# Altium integrated library Xilinx Spartan-3E.IntLib: 220 symbols (part 7 of 30)
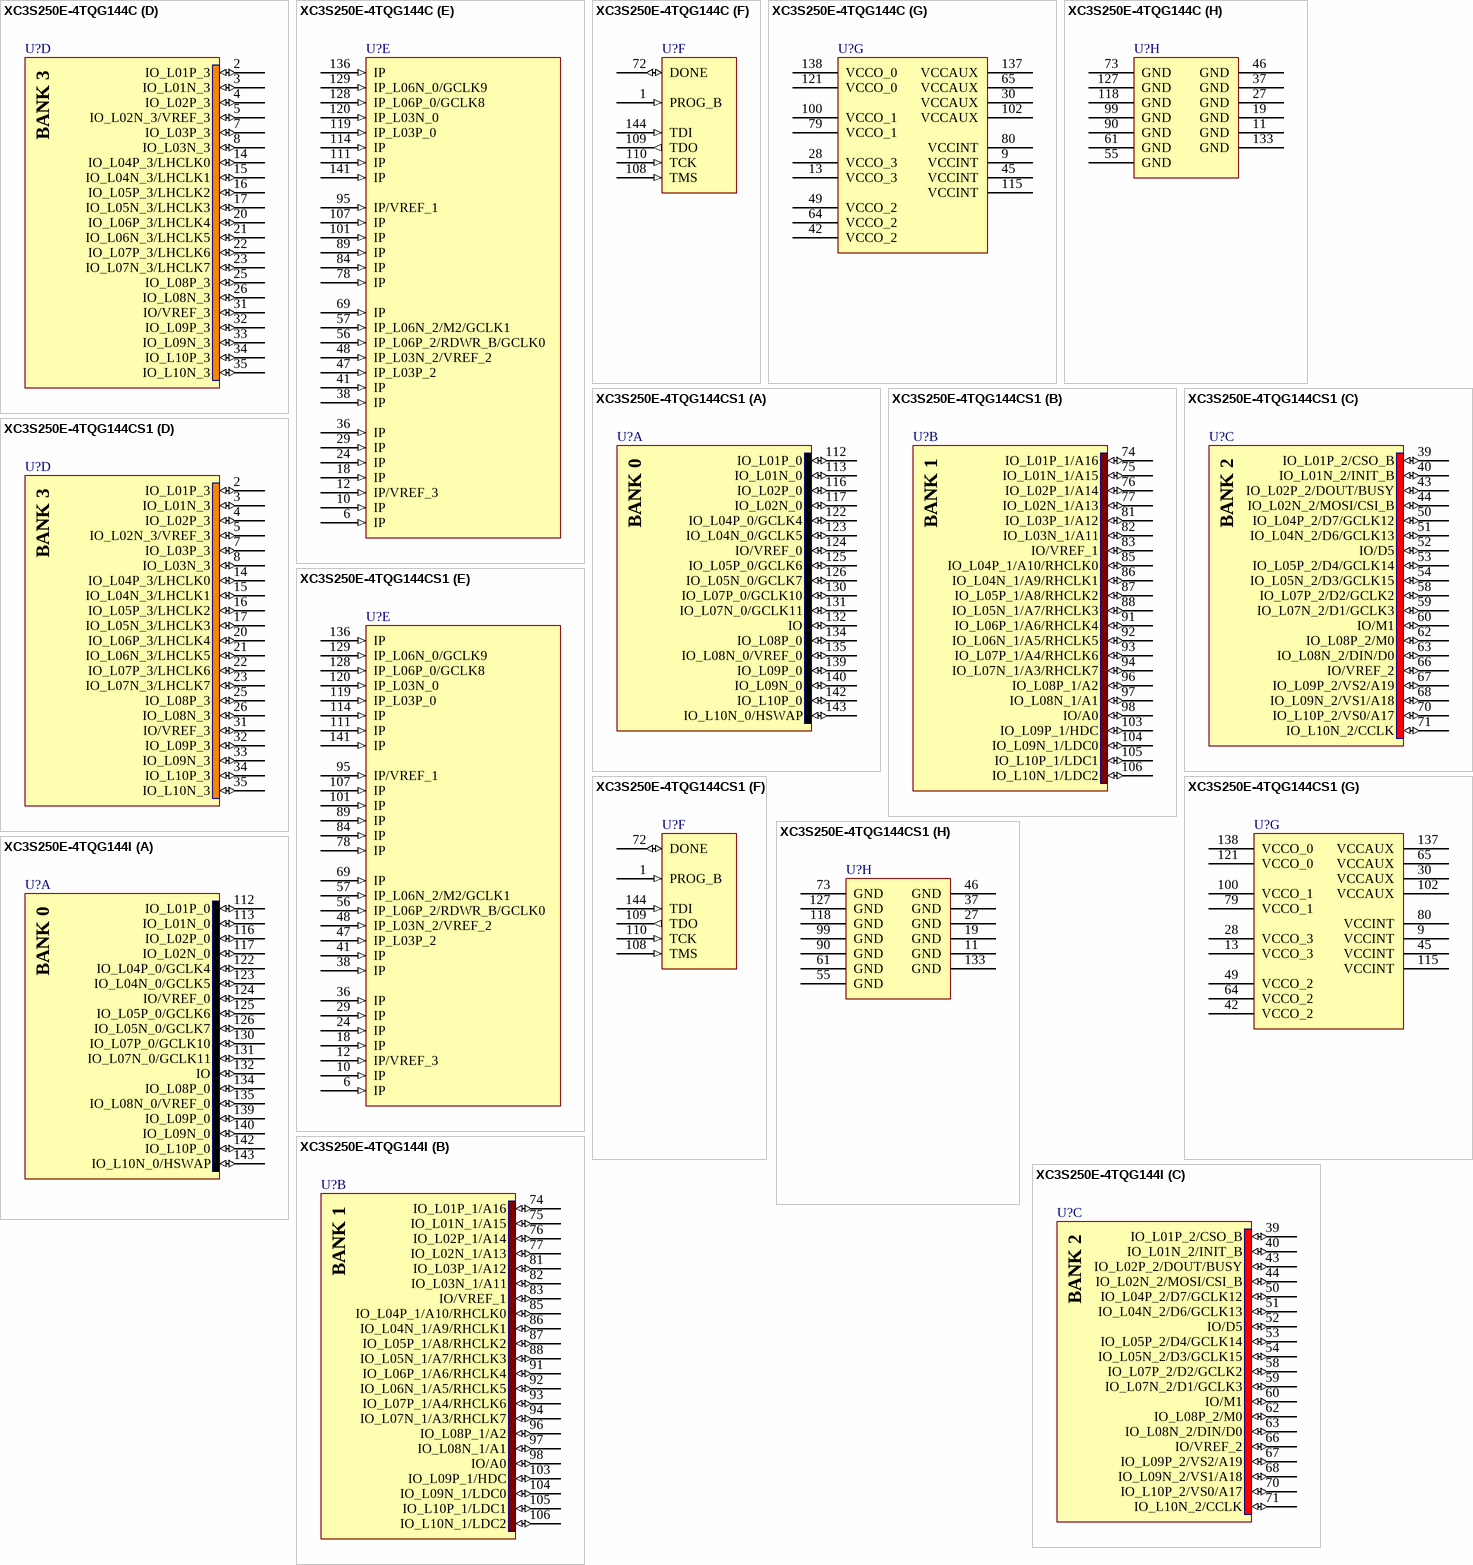
[diagram p200: symbols XC3S250E-4TQG144C to XC3S250E-4TQG144I]

## XC3S250E-4TQG144C
designator U?
Spartan-3E 1.2V FPGA, 108 User I/Os, 144-Pin TQFP, Standard Performance, Commercial Grade, Pb-Free; Published: 6-Jun-2005; LatestRevisionDate: 30-Oct-2009; LatestRevisionNote: Updated to datasheet version 3.8 Aug-2009.; DatasheetVersion: ver3.8, Aug-2009; PackageVersion: ver1.2, Jun-2004; PackageReference: TQG144; Publisher: Altium Limited; PackageDescription: 144-Pin Thin Quad Flat Pack (TQG144) - Pb-Free; Supplier 1: Digi-Key; Supplier Part Number 1: 122-1524-ND; Code_JEDEC: MS-026-BFB; ComponentLink1Description: Spartan-3E Datasheet; ComponentLink1URL: http://www.xilinx.com/support/documentation/data_sheets/ds312.pdf; ComponentLink2Description: TQG144 Package Drawing; ComponentLink2URL: http://www.xilinx.com/support/documentation/package_specs/tq144.pdf; ComponentLink3Description: Spartan-3E Documents; ComponentLink3URL: http://www.xilinx.com/support/documentation/spartan-3e.htm; ComponentLink4Description: Xilinx.com Home; ComponentLink4URL: http://www.xilinx.com
footprint TQG144_N (Thin QFP, 144-Leads, Body 20x20mm, Pitch 0.5mm, IPC Medium Density)
footprint TQG144_L (Thin QFP, 144-Leads, Body 20x20mm, Pitch 0.5mm, IPC High Density)
footprint TQG144_M (Thin QFP, 144-Leads, Body 20x20mm, Pitch 0.5mm, IPC Low Density)
signal-integrity model XC3S250E_TQG144 (Spartan-3E)
part A pins: 112 IO_L01P_0 (io), 113 IO_L01N_0 (io), 116 IO_L02P_0 (io), 117 IO_L02N_0 (io), 122 IO_L04P_0/GCLK4 (io), 123 IO_L04N_0/GCLK5 (io), 124 IO/VREF_0 (io), 125 IO_L05P_0/GCLK6 (io), 126 IO_L05N_0/GCLK7 (io), 130 IO_L07P_0/GCLK10 (io), 131 IO_L07N_0/GCLK11 (io), 132 IO (io), 134 IO_L08P_0 (io), 135 IO_L08N_0/VREF_0 (io), 139 IO_L09P_0 (io), 140 IO_L09N_0 (io), 142 IO_L10P_0 (io), 143 IO_L10N_0/HSWAP (io)
part B pins: 74 IO_L01P_1/A16 (io), 75 IO_L01N_1/A15 (io), 76 IO_L02P_1/A14 (io), 77 IO_L02N_1/A13 (io), 81 IO_L03P_1/A12 (io), 82 IO_L03N_1/A11 (io), 83 IO/VREF_1 (io), 85 IO_L04P_1/A10/RHCLK0 (io), 86 IO_L04N_1/A9/RHCLK1 (io), 87 IO_L05P_1/A8/RHCLK2 (io), 88 IO_L05N_1/A7/RHCLK3 (io), 91 IO_L06P_1/A6/RHCLK4 (io), 92 IO_L06N_1/A5/RHCLK5 (io), 93 IO_L07P_1/A4/RHCLK6 (io), 94 IO_L07N_1/A3/RHCLK7 (io), 96 IO_L08P_1/A2 (io), 97 IO_L08N_1/A1 (io), 98 IO/A0 (io), 103 IO_L09P_1/HDC (io), 104 IO_L09N_1/LDC0 (io), 105 IO_L10P_1/LDC1 (io), 106 IO_L10N_1/LDC2 (io)
part C pins: 39 IO_L01P_2/CSO_B (io), 40 IO_L01N_2/INIT_B (io), 43 IO_L02P_2/DOUT/BUSY (io), 44 IO_L02N_2/MOSI/CSI_B (io), 50 IO_L04P_2/D7/GCLK12 (io), 51 IO_L04N_2/D6/GCLK13 (io), 52 IO/D5 (io), 53 IO_L05P_2/D4/GCLK14 (io), 54 IO_L05N_2/D3/GCLK15 (io), 58 IO_L07P_2/D2/GCLK2 (io), 59 IO_L07N_2/D1/GCLK3 (io), 60 IO/M1 (io), 62 IO_L08P_2/M0 (io), 63 IO_L08N_2/DIN/D0 (io), 66 IO/VREF_2 (io), 67 IO_L09P_2/VS2/A19 (io), 68 IO_L09N_2/VS1/A18 (io), 70 IO_L10P_2/VS0/A17 (io), 71 IO_L10N_2/CCLK (io)
part D pins: 2 IO_L01P_3 (io), 3 IO_L01N_3 (io), 4 IO_L02P_3 (io), 5 IO_L02N_3/VREF_3 (io), 7 IO_L03P_3 (io), 8 IO_L03N_3 (io), 14 IO_L04P_3/LHCLK0 (io), 15 IO_L04N_3/LHCLK1 (io), 16 IO_L05P_3/LHCLK2 (io), 17 IO_L05N_3/LHCLK3 (io), 20 IO_L06P_3/LHCLK4 (io), 21 IO_L06N_3/LHCLK5 (io), 22 IO_L07P_3/LHCLK6 (io), 23 IO_L07N_3/LHCLK7 (io), 25 IO_L08P_3 (io), 26 IO_L08N_3 (io), 31 IO/VREF_3 (io), 32 IO_L09P_3 (io), 33 IO_L09N_3 (io), 34 IO_L10P_3 (io), 35 IO_L10N_3 (io)
part E pins: 6 IP (in), 10 IP (in), 12 IP/VREF_3 (in), 18 IP (in), 24 IP (in), 29 IP (in), 36 IP (in), 38 IP (in), 41 IP (in), 47 IP_L03P_2 (in), 48 IP_L03N_2/VREF_2 (in), 56 IP_L06P_2/RDWR_B/GCLK0 (in), 57 IP_L06N_2/M2/GCLK1 (in), 69 IP (in), 78 IP (in), 84 IP (in), 89 IP (in), 95 IP/VREF_1 (in), 101 IP (in), 107 IP (in), 111 IP (in), 114 IP (in), 119 IP_L03P_0 (in), 120 IP_L03N_0 (in), 128 IP_L06P_0/GCLK8 (in), 129 IP_L06N_0/GCLK9 (in), 136 IP (in), 141 IP (in)
part F pins: 1 PROG_B (in), 72 DONE (io), 108 TMS (in), 109 TDO (out), 110 TCK (in), 144 TDI (in)
part G pins: 9 VCCINT (power), 13 VCCO_3 (power), 28 VCCO_3 (power), 30 VCCAUX (power), 42 VCCO_2 (power), 45 VCCINT (power), 49 VCCO_2 (power), 64 VCCO_2 (power), 65 VCCAUX (power), 79 VCCO_1 (power), 80 VCCINT (power), 100 VCCO_1 (power), 102 VCCAUX (power), 115 VCCINT (power), 121 VCCO_0 (power), 137 VCCAUX (power), 138 VCCO_0 (power)
part H pins: 11 GND (power), 19 GND (power), 27 GND (power), 37 GND (power), 46 GND (power), 55 GND (power), 61 GND (power), 73 GND (power), 90 GND (power), 99 GND (power), 118 GND (power), 127 GND (power), 133 GND (power)
part A text: BANK 0
part B text: BANK 1
part C text: BANK 2
part D text: BANK 3

## XC3S250E-4TQG144CS1
designator U?
Spartan-3E 1.2V FPGA, 108 User I/Os, 144-Pin TQFP, Standard Performance, Commercial Grade, Stepping 1, Pb-Free; Published: 14-May-2007; LatestRevisionDate: 30-Oct-2009; LatestRevisionNote: Updated to datasheet version 3.8 Aug-2009.; DatasheetVersion: ver3.8, Aug-2009; PackageVersion: ver1.2, Jun-2004; PackageReference: TQG144; Publisher: Altium Limited; PackageDescription: 144-Pin Thin Quad Flat Pack (TQG144) - Pb-Free; Code_JEDEC: MS-026-BFB; ComponentLink1Description: Spartan-3E Datasheet; ComponentLink1URL: http://www.xilinx.com/support/documentation/data_sheets/ds312.pdf; ComponentLink2Description: TQG144 Package Drawing; ComponentLink2URL: http://www.xilinx.com/support/documentation/package_specs/tq144.pdf; ComponentLink3Description: Spartan-3E Documents; ComponentLink3URL: http://www.xilinx.com/support/documentation/spartan-3e.htm; ComponentLink4Description: Xilinx.com Home; ComponentLink4URL: http://www.xilinx.com
footprint TQG144_N (Thin QFP, 144-Leads, Body 20x20mm, Pitch 0.5mm, IPC Medium Density)
footprint TQG144_L (Thin QFP, 144-Leads, Body 20x20mm, Pitch 0.5mm, IPC High Density)
footprint TQG144_M (Thin QFP, 144-Leads, Body 20x20mm, Pitch 0.5mm, IPC Low Density)
signal-integrity model XC3S250E_TQG144 (Spartan-3E)
part A pins: 112 IO_L01P_0 (io), 113 IO_L01N_0 (io), 116 IO_L02P_0 (io), 117 IO_L02N_0 (io), 122 IO_L04P_0/GCLK4 (io), 123 IO_L04N_0/GCLK5 (io), 124 IO/VREF_0 (io), 125 IO_L05P_0/GCLK6 (io), 126 IO_L05N_0/GCLK7 (io), 130 IO_L07P_0/GCLK10 (io), 131 IO_L07N_0/GCLK11 (io), 132 IO (io), 134 IO_L08P_0 (io), 135 IO_L08N_0/VREF_0 (io), 139 IO_L09P_0 (io), 140 IO_L09N_0 (io), 142 IO_L10P_0 (io), 143 IO_L10N_0/HSWAP (io)
part B pins: 74 IO_L01P_1/A16 (io), 75 IO_L01N_1/A15 (io), 76 IO_L02P_1/A14 (io), 77 IO_L02N_1/A13 (io), 81 IO_L03P_1/A12 (io), 82 IO_L03N_1/A11 (io), 83 IO/VREF_1 (io), 85 IO_L04P_1/A10/RHCLK0 (io), 86 IO_L04N_1/A9/RHCLK1 (io), 87 IO_L05P_1/A8/RHCLK2 (io), 88 IO_L05N_1/A7/RHCLK3 (io), 91 IO_L06P_1/A6/RHCLK4 (io), 92 IO_L06N_1/A5/RHCLK5 (io), 93 IO_L07P_1/A4/RHCLK6 (io), 94 IO_L07N_1/A3/RHCLK7 (io), 96 IO_L08P_1/A2 (io), 97 IO_L08N_1/A1 (io), 98 IO/A0 (io), 103 IO_L09P_1/HDC (io), 104 IO_L09N_1/LDC0 (io), 105 IO_L10P_1/LDC1 (io), 106 IO_L10N_1/LDC2 (io)
part C pins: 39 IO_L01P_2/CSO_B (io), 40 IO_L01N_2/INIT_B (io), 43 IO_L02P_2/DOUT/BUSY (io), 44 IO_L02N_2/MOSI/CSI_B (io), 50 IO_L04P_2/D7/GCLK12 (io), 51 IO_L04N_2/D6/GCLK13 (io), 52 IO/D5 (io), 53 IO_L05P_2/D4/GCLK14 (io), 54 IO_L05N_2/D3/GCLK15 (io), 58 IO_L07P_2/D2/GCLK2 (io), 59 IO_L07N_2/D1/GCLK3 (io), 60 IO/M1 (io), 62 IO_L08P_2/M0 (io), 63 IO_L08N_2/DIN/D0 (io), 66 IO/VREF_2 (io), 67 IO_L09P_2/VS2/A19 (io), 68 IO_L09N_2/VS1/A18 (io), 70 IO_L10P_2/VS0/A17 (io), 71 IO_L10N_2/CCLK (io)
part D pins: 2 IO_L01P_3 (io), 3 IO_L01N_3 (io), 4 IO_L02P_3 (io), 5 IO_L02N_3/VREF_3 (io), 7 IO_L03P_3 (io), 8 IO_L03N_3 (io), 14 IO_L04P_3/LHCLK0 (io), 15 IO_L04N_3/LHCLK1 (io), 16 IO_L05P_3/LHCLK2 (io), 17 IO_L05N_3/LHCLK3 (io), 20 IO_L06P_3/LHCLK4 (io), 21 IO_L06N_3/LHCLK5 (io), 22 IO_L07P_3/LHCLK6 (io), 23 IO_L07N_3/LHCLK7 (io), 25 IO_L08P_3 (io), 26 IO_L08N_3 (io), 31 IO/VREF_3 (io), 32 IO_L09P_3 (io), 33 IO_L09N_3 (io), 34 IO_L10P_3 (io), 35 IO_L10N_3 (io)
part E pins: 6 IP (in), 10 IP (in), 12 IP/VREF_3 (in), 18 IP (in), 24 IP (in), 29 IP (in), 36 IP (in), 38 IP (in), 41 IP (in), 47 IP_L03P_2 (in), 48 IP_L03N_2/VREF_2 (in), 56 IP_L06P_2/RDWR_B/GCLK0 (in), 57 IP_L06N_2/M2/GCLK1 (in), 69 IP (in), 78 IP (in), 84 IP (in), 89 IP (in), 95 IP/VREF_1 (in), 101 IP (in), 107 IP (in), 111 IP (in), 114 IP (in), 119 IP_L03P_0 (in), 120 IP_L03N_0 (in), 128 IP_L06P_0/GCLK8 (in), 129 IP_L06N_0/GCLK9 (in), 136 IP (in), 141 IP (in)
part F pins: 1 PROG_B (in), 72 DONE (io), 108 TMS (in), 109 TDO (out), 110 TCK (in), 144 TDI (in)
part G pins: 9 VCCINT (power), 13 VCCO_3 (power), 28 VCCO_3 (power), 30 VCCAUX (power), 42 VCCO_2 (power), 45 VCCINT (power), 49 VCCO_2 (power), 64 VCCO_2 (power), 65 VCCAUX (power), 79 VCCO_1 (power), 80 VCCINT (power), 100 VCCO_1 (power), 102 VCCAUX (power), 115 VCCINT (power), 121 VCCO_0 (power), 137 VCCAUX (power), 138 VCCO_0 (power)
part H pins: 11 GND (power), 19 GND (power), 27 GND (power), 37 GND (power), 46 GND (power), 55 GND (power), 61 GND (power), 73 GND (power), 90 GND (power), 99 GND (power), 118 GND (power), 127 GND (power), 133 GND (power)
part A text: BANK 0
part B text: BANK 1
part C text: BANK 2
part D text: BANK 3

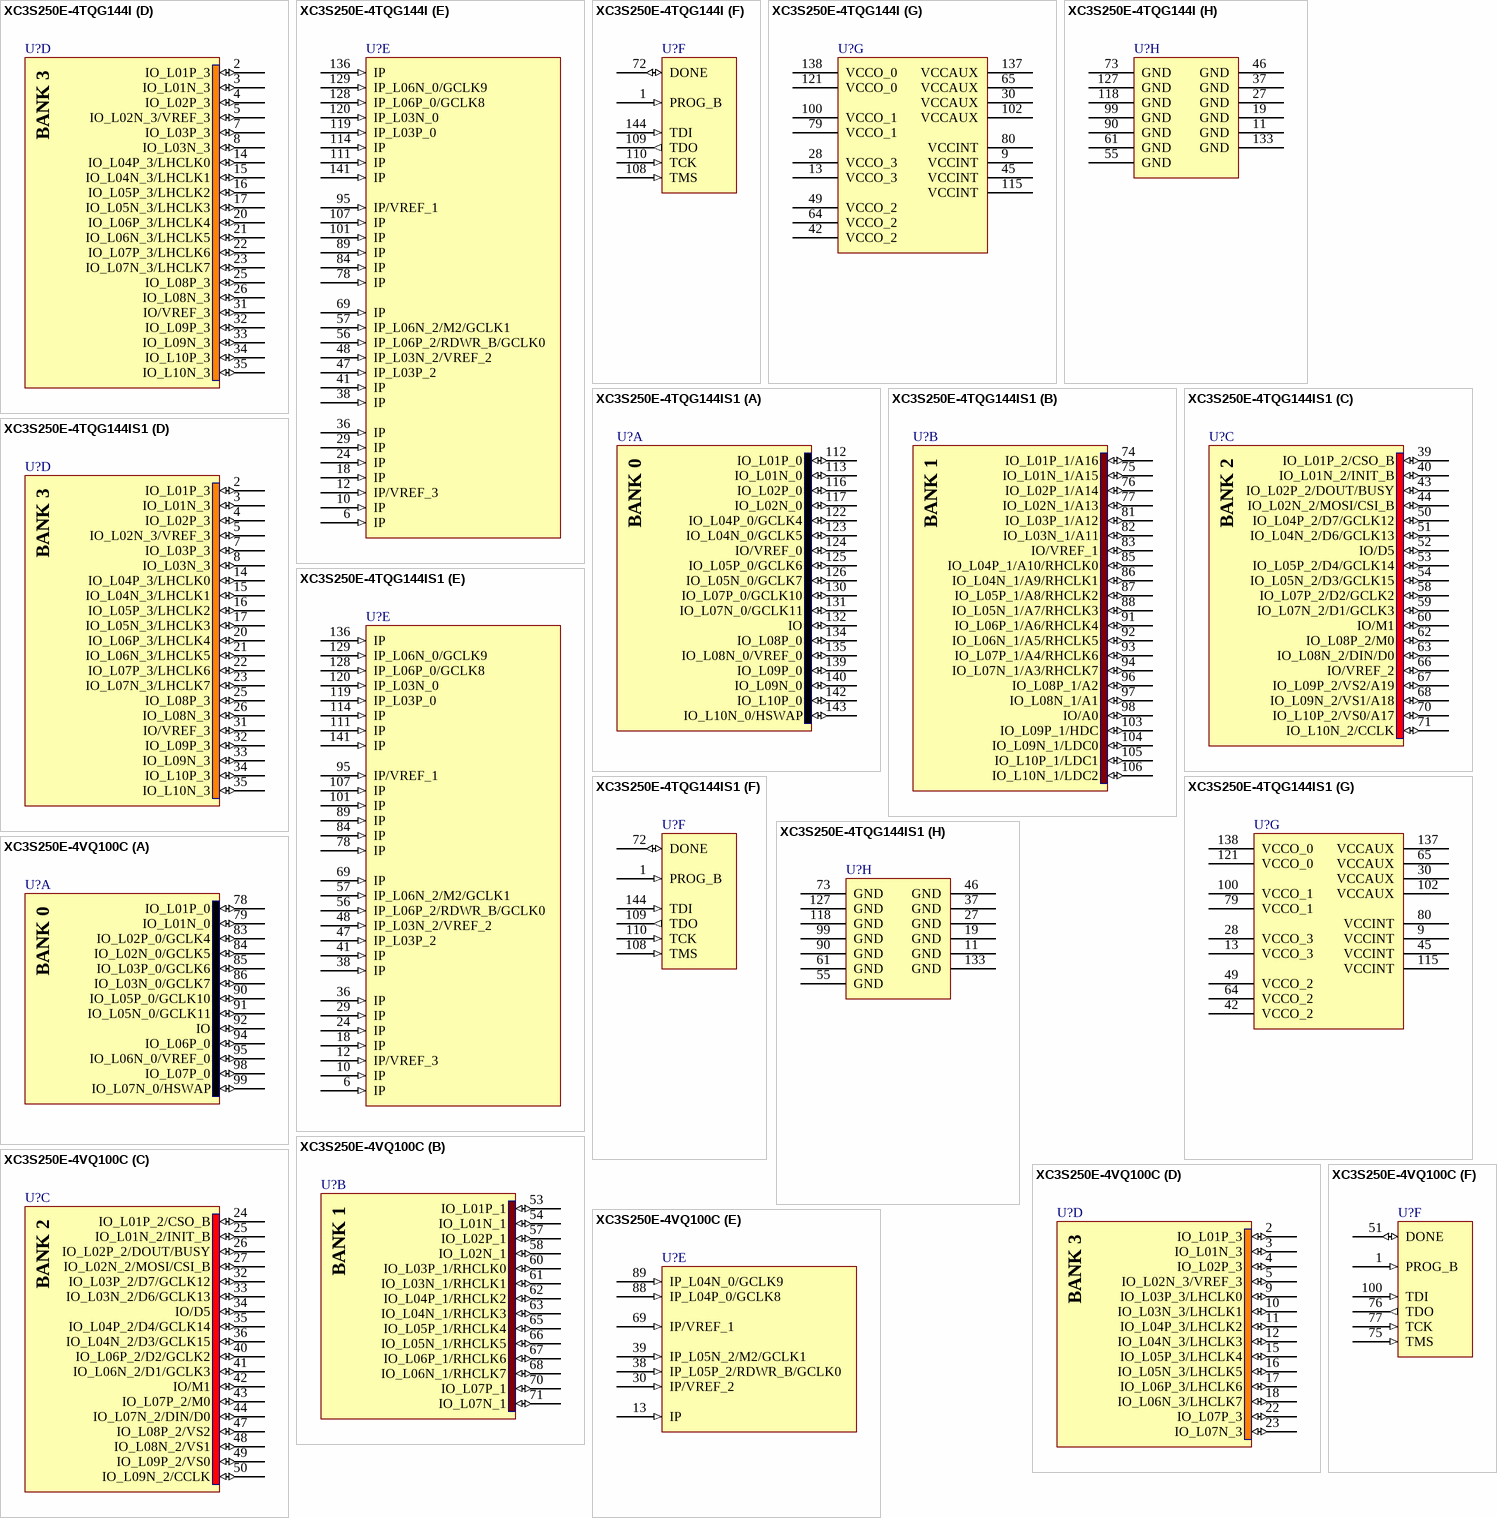
[diagram p37: symbols XC3S250E-4TQG144I to XC3S250E-4VQ100C]

## XC3S250E-4TQG144I
designator U?
Spartan-3E 1.2V FPGA, 108 User I/Os, 144-Pin TQFP, Standard Performance, Industrial Grade, Pb-Free; Published: 6-Jun-2005; LatestRevisionDate: 30-Oct-2009; LatestRevisionNote: Updated to datasheet version 3.8 Aug-2009.; DatasheetVersion: ver3.8, Aug-2009; PackageVersion: ver1.2, Jun-2004; PackageReference: TQG144; Publisher: Altium Limited; PackageDescription: 144-Pin Thin Quad Flat Pack (TQG144) - Pb-Free; Supplier 1: Digi-Key; Supplier Part Number 1: XC3S250E-4TQG144I-ND; Code_JEDEC: MS-026-BFB; ComponentLink1Description: Spartan-3E Datasheet; ComponentLink1URL: http://www.xilinx.com/support/documentation/data_sheets/ds312.pdf; ComponentLink2Description: TQG144 Package Drawing; ComponentLink2URL: http://www.xilinx.com/support/documentation/package_specs/tq144.pdf; ComponentLink3Description: Spartan-3E Documents; ComponentLink3URL: http://www.xilinx.com/support/documentation/spartan-3e.htm; ComponentLink4Description: Xilinx.com Home; ComponentLink4URL: http://www.xilinx.com
footprint TQG144_N (Thin QFP, 144-Leads, Body 20x20mm, Pitch 0.5mm, IPC Medium Density)
footprint TQG144_L (Thin QFP, 144-Leads, Body 20x20mm, Pitch 0.5mm, IPC High Density)
footprint TQG144_M (Thin QFP, 144-Leads, Body 20x20mm, Pitch 0.5mm, IPC Low Density)
signal-integrity model XC3S250E_TQG144 (Spartan-3E)
part A pins: 112 IO_L01P_0 (io), 113 IO_L01N_0 (io), 116 IO_L02P_0 (io), 117 IO_L02N_0 (io), 122 IO_L04P_0/GCLK4 (io), 123 IO_L04N_0/GCLK5 (io), 124 IO/VREF_0 (io), 125 IO_L05P_0/GCLK6 (io), 126 IO_L05N_0/GCLK7 (io), 130 IO_L07P_0/GCLK10 (io), 131 IO_L07N_0/GCLK11 (io), 132 IO (io), 134 IO_L08P_0 (io), 135 IO_L08N_0/VREF_0 (io), 139 IO_L09P_0 (io), 140 IO_L09N_0 (io), 142 IO_L10P_0 (io), 143 IO_L10N_0/HSWAP (io)
part B pins: 74 IO_L01P_1/A16 (io), 75 IO_L01N_1/A15 (io), 76 IO_L02P_1/A14 (io), 77 IO_L02N_1/A13 (io), 81 IO_L03P_1/A12 (io), 82 IO_L03N_1/A11 (io), 83 IO/VREF_1 (io), 85 IO_L04P_1/A10/RHCLK0 (io), 86 IO_L04N_1/A9/RHCLK1 (io), 87 IO_L05P_1/A8/RHCLK2 (io), 88 IO_L05N_1/A7/RHCLK3 (io), 91 IO_L06P_1/A6/RHCLK4 (io), 92 IO_L06N_1/A5/RHCLK5 (io), 93 IO_L07P_1/A4/RHCLK6 (io), 94 IO_L07N_1/A3/RHCLK7 (io), 96 IO_L08P_1/A2 (io), 97 IO_L08N_1/A1 (io), 98 IO/A0 (io), 103 IO_L09P_1/HDC (io), 104 IO_L09N_1/LDC0 (io), 105 IO_L10P_1/LDC1 (io), 106 IO_L10N_1/LDC2 (io)
part C pins: 39 IO_L01P_2/CSO_B (io), 40 IO_L01N_2/INIT_B (io), 43 IO_L02P_2/DOUT/BUSY (io), 44 IO_L02N_2/MOSI/CSI_B (io), 50 IO_L04P_2/D7/GCLK12 (io), 51 IO_L04N_2/D6/GCLK13 (io), 52 IO/D5 (io), 53 IO_L05P_2/D4/GCLK14 (io), 54 IO_L05N_2/D3/GCLK15 (io), 58 IO_L07P_2/D2/GCLK2 (io), 59 IO_L07N_2/D1/GCLK3 (io), 60 IO/M1 (io), 62 IO_L08P_2/M0 (io), 63 IO_L08N_2/DIN/D0 (io), 66 IO/VREF_2 (io), 67 IO_L09P_2/VS2/A19 (io), 68 IO_L09N_2/VS1/A18 (io), 70 IO_L10P_2/VS0/A17 (io), 71 IO_L10N_2/CCLK (io)
part D pins: 2 IO_L01P_3 (io), 3 IO_L01N_3 (io), 4 IO_L02P_3 (io), 5 IO_L02N_3/VREF_3 (io), 7 IO_L03P_3 (io), 8 IO_L03N_3 (io), 14 IO_L04P_3/LHCLK0 (io), 15 IO_L04N_3/LHCLK1 (io), 16 IO_L05P_3/LHCLK2 (io), 17 IO_L05N_3/LHCLK3 (io), 20 IO_L06P_3/LHCLK4 (io), 21 IO_L06N_3/LHCLK5 (io), 22 IO_L07P_3/LHCLK6 (io), 23 IO_L07N_3/LHCLK7 (io), 25 IO_L08P_3 (io), 26 IO_L08N_3 (io), 31 IO/VREF_3 (io), 32 IO_L09P_3 (io), 33 IO_L09N_3 (io), 34 IO_L10P_3 (io), 35 IO_L10N_3 (io)
part E pins: 6 IP (in), 10 IP (in), 12 IP/VREF_3 (in), 18 IP (in), 24 IP (in), 29 IP (in), 36 IP (in), 38 IP (in), 41 IP (in), 47 IP_L03P_2 (in), 48 IP_L03N_2/VREF_2 (in), 56 IP_L06P_2/RDWR_B/GCLK0 (in), 57 IP_L06N_2/M2/GCLK1 (in), 69 IP (in), 78 IP (in), 84 IP (in), 89 IP (in), 95 IP/VREF_1 (in), 101 IP (in), 107 IP (in), 111 IP (in), 114 IP (in), 119 IP_L03P_0 (in), 120 IP_L03N_0 (in), 128 IP_L06P_0/GCLK8 (in), 129 IP_L06N_0/GCLK9 (in), 136 IP (in), 141 IP (in)
part F pins: 1 PROG_B (in), 72 DONE (io), 108 TMS (in), 109 TDO (out), 110 TCK (in), 144 TDI (in)
part G pins: 9 VCCINT (power), 13 VCCO_3 (power), 28 VCCO_3 (power), 30 VCCAUX (power), 42 VCCO_2 (power), 45 VCCINT (power), 49 VCCO_2 (power), 64 VCCO_2 (power), 65 VCCAUX (power), 79 VCCO_1 (power), 80 VCCINT (power), 100 VCCO_1 (power), 102 VCCAUX (power), 115 VCCINT (power), 121 VCCO_0 (power), 137 VCCAUX (power), 138 VCCO_0 (power)
part H pins: 11 GND (power), 19 GND (power), 27 GND (power), 37 GND (power), 46 GND (power), 55 GND (power), 61 GND (power), 73 GND (power), 90 GND (power), 99 GND (power), 118 GND (power), 127 GND (power), 133 GND (power)
part A text: BANK 0
part B text: BANK 1
part C text: BANK 2
part D text: BANK 3

## XC3S250E-4TQG144IS1
designator U?
Spartan-3E 1.2V FPGA, 108 User I/Os, 144-Pin TQFP, Standard Performance, Industrial Grade, Stepping 1, Pb-Free; Published: 14-May-2007; LatestRevisionDate: 30-Oct-2009; LatestRevisionNote: Updated to datasheet version 3.8 Aug-2009.; DatasheetVersion: ver3.8, Aug-2009; PackageVersion: ver1.2, Jun-2004; PackageReference: TQG144; Publisher: Altium Limited; PackageDescription: 144-Pin Thin Quad Flat Pack (TQG144) - Pb-Free; Code_JEDEC: MS-026-BFB; ComponentLink1Description: Spartan-3E Datasheet; ComponentLink1URL: http://www.xilinx.com/support/documentation/data_sheets/ds312.pdf; ComponentLink2Description: TQG144 Package Drawing; ComponentLink2URL: http://www.xilinx.com/support/documentation/package_specs/tq144.pdf; ComponentLink3Description: Spartan-3E Documents; ComponentLink3URL: http://www.xilinx.com/support/documentation/spartan-3e.htm; ComponentLink4Description: Xilinx.com Home; ComponentLink4URL: http://www.xilinx.com
footprint TQG144_N (Thin QFP, 144-Leads, Body 20x20mm, Pitch 0.5mm, IPC Medium Density)
footprint TQG144_L (Thin QFP, 144-Leads, Body 20x20mm, Pitch 0.5mm, IPC High Density)
footprint TQG144_M (Thin QFP, 144-Leads, Body 20x20mm, Pitch 0.5mm, IPC Low Density)
signal-integrity model XC3S250E_TQG144 (Spartan-3E)
part A pins: 112 IO_L01P_0 (io), 113 IO_L01N_0 (io), 116 IO_L02P_0 (io), 117 IO_L02N_0 (io), 122 IO_L04P_0/GCLK4 (io), 123 IO_L04N_0/GCLK5 (io), 124 IO/VREF_0 (io), 125 IO_L05P_0/GCLK6 (io), 126 IO_L05N_0/GCLK7 (io), 130 IO_L07P_0/GCLK10 (io), 131 IO_L07N_0/GCLK11 (io), 132 IO (io), 134 IO_L08P_0 (io), 135 IO_L08N_0/VREF_0 (io), 139 IO_L09P_0 (io), 140 IO_L09N_0 (io), 142 IO_L10P_0 (io), 143 IO_L10N_0/HSWAP (io)
part B pins: 74 IO_L01P_1/A16 (io), 75 IO_L01N_1/A15 (io), 76 IO_L02P_1/A14 (io), 77 IO_L02N_1/A13 (io), 81 IO_L03P_1/A12 (io), 82 IO_L03N_1/A11 (io), 83 IO/VREF_1 (io), 85 IO_L04P_1/A10/RHCLK0 (io), 86 IO_L04N_1/A9/RHCLK1 (io), 87 IO_L05P_1/A8/RHCLK2 (io), 88 IO_L05N_1/A7/RHCLK3 (io), 91 IO_L06P_1/A6/RHCLK4 (io), 92 IO_L06N_1/A5/RHCLK5 (io), 93 IO_L07P_1/A4/RHCLK6 (io), 94 IO_L07N_1/A3/RHCLK7 (io), 96 IO_L08P_1/A2 (io), 97 IO_L08N_1/A1 (io), 98 IO/A0 (io), 103 IO_L09P_1/HDC (io), 104 IO_L09N_1/LDC0 (io), 105 IO_L10P_1/LDC1 (io), 106 IO_L10N_1/LDC2 (io)
part C pins: 39 IO_L01P_2/CSO_B (io), 40 IO_L01N_2/INIT_B (io), 43 IO_L02P_2/DOUT/BUSY (io), 44 IO_L02N_2/MOSI/CSI_B (io), 50 IO_L04P_2/D7/GCLK12 (io), 51 IO_L04N_2/D6/GCLK13 (io), 52 IO/D5 (io), 53 IO_L05P_2/D4/GCLK14 (io), 54 IO_L05N_2/D3/GCLK15 (io), 58 IO_L07P_2/D2/GCLK2 (io), 59 IO_L07N_2/D1/GCLK3 (io), 60 IO/M1 (io), 62 IO_L08P_2/M0 (io), 63 IO_L08N_2/DIN/D0 (io), 66 IO/VREF_2 (io), 67 IO_L09P_2/VS2/A19 (io), 68 IO_L09N_2/VS1/A18 (io), 70 IO_L10P_2/VS0/A17 (io), 71 IO_L10N_2/CCLK (io)
part D pins: 2 IO_L01P_3 (io), 3 IO_L01N_3 (io), 4 IO_L02P_3 (io), 5 IO_L02N_3/VREF_3 (io), 7 IO_L03P_3 (io), 8 IO_L03N_3 (io), 14 IO_L04P_3/LHCLK0 (io), 15 IO_L04N_3/LHCLK1 (io), 16 IO_L05P_3/LHCLK2 (io), 17 IO_L05N_3/LHCLK3 (io), 20 IO_L06P_3/LHCLK4 (io), 21 IO_L06N_3/LHCLK5 (io), 22 IO_L07P_3/LHCLK6 (io), 23 IO_L07N_3/LHCLK7 (io), 25 IO_L08P_3 (io), 26 IO_L08N_3 (io), 31 IO/VREF_3 (io), 32 IO_L09P_3 (io), 33 IO_L09N_3 (io), 34 IO_L10P_3 (io), 35 IO_L10N_3 (io)
part E pins: 6 IP (in), 10 IP (in), 12 IP/VREF_3 (in), 18 IP (in), 24 IP (in), 29 IP (in), 36 IP (in), 38 IP (in), 41 IP (in), 47 IP_L03P_2 (in), 48 IP_L03N_2/VREF_2 (in), 56 IP_L06P_2/RDWR_B/GCLK0 (in), 57 IP_L06N_2/M2/GCLK1 (in), 69 IP (in), 78 IP (in), 84 IP (in), 89 IP (in), 95 IP/VREF_1 (in), 101 IP (in), 107 IP (in), 111 IP (in), 114 IP (in), 119 IP_L03P_0 (in), 120 IP_L03N_0 (in), 128 IP_L06P_0/GCLK8 (in), 129 IP_L06N_0/GCLK9 (in), 136 IP (in), 141 IP (in)
part F pins: 1 PROG_B (in), 72 DONE (io), 108 TMS (in), 109 TDO (out), 110 TCK (in), 144 TDI (in)
part G pins: 9 VCCINT (power), 13 VCCO_3 (power), 28 VCCO_3 (power), 30 VCCAUX (power), 42 VCCO_2 (power), 45 VCCINT (power), 49 VCCO_2 (power), 64 VCCO_2 (power), 65 VCCAUX (power), 79 VCCO_1 (power), 80 VCCINT (power), 100 VCCO_1 (power), 102 VCCAUX (power), 115 VCCINT (power), 121 VCCO_0 (power), 137 VCCAUX (power), 138 VCCO_0 (power)
part H pins: 11 GND (power), 19 GND (power), 27 GND (power), 37 GND (power), 46 GND (power), 55 GND (power), 61 GND (power), 73 GND (power), 90 GND (power), 99 GND (power), 118 GND (power), 127 GND (power), 133 GND (power)
part A text: BANK 0
part B text: BANK 1
part C text: BANK 2
part D text: BANK 3

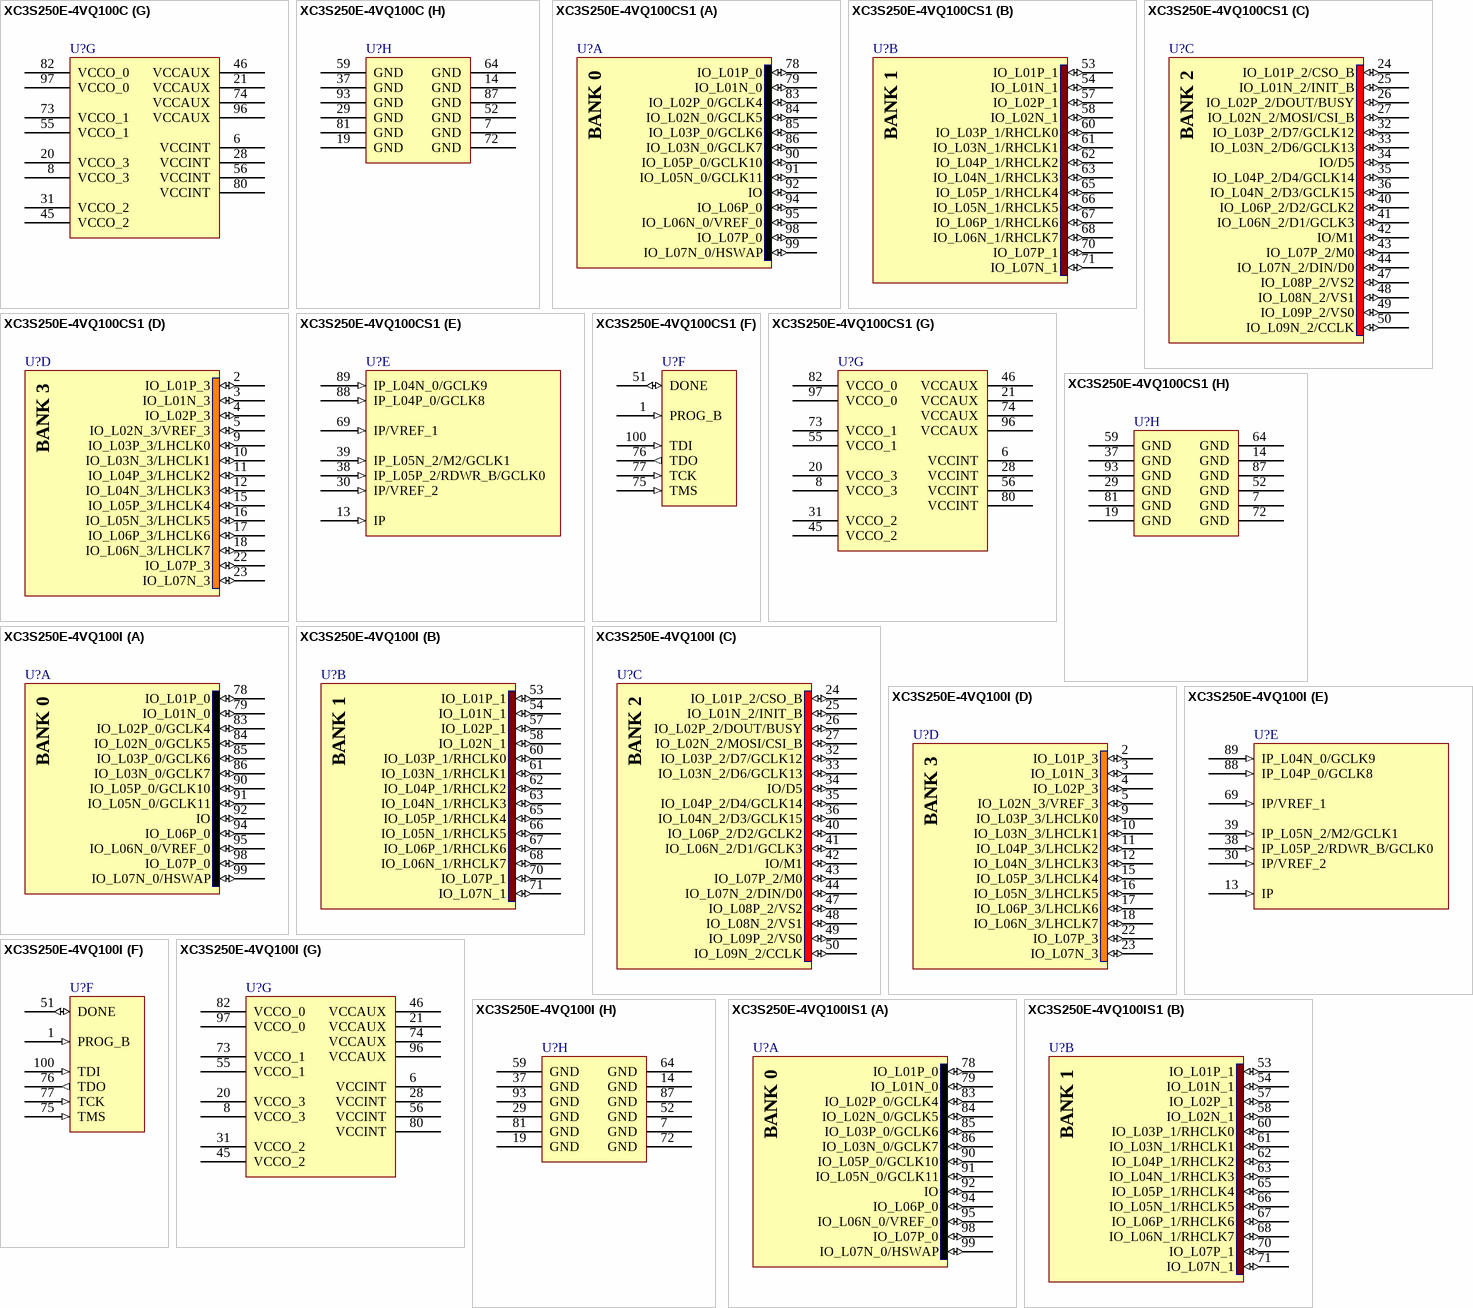
[diagram p38: symbols XC3S250E-4VQ100C to XC3S250E-4VQ100IS1]

## XC3S250E-4VQ100C
designator U?
Spartan-3E 1.2V FPGA, 66 User I/Os, 100-Pin VQFP, Standard Performance, Commercial Grade; Published: 6-Jun-2005; LatestRevisionDate: 30-Oct-2009; LatestRevisionNote: Updated to datasheet version 3.8 Aug-2009.; DatasheetVersion: ver3.8, Aug-2009; PackageVersion: ver1.2.1, Feb-2007; PackageReference: VQ100; Publisher: Altium Limited; PackageDescription: 100-Pin Very Thin Quad Flat Pack (VQ100); Code_JEDEC: MS-026-AED; ComponentLink1Description: Spartan-3E Datasheet; ComponentLink1URL: http://www.xilinx.com/support/documentation/data_sheets/ds312.pdf; ComponentLink2Description: VQ100 Package Drawing; ComponentLink2URL: http://www.xilinx.com/support/documentation/package_specs/vq100.pdf; ComponentLink3Description: Spartan-3E Documents; ComponentLink3URL: http://www.xilinx.com/support/documentation/spartan-3e.htm; ComponentLink4Description: Xilinx.com Home; ComponentLink4URL: http://www.xilinx.com
footprint VQ100_N (Thin QFP, 100-Leads, Body 14x14mm, Pitch 0.5mm, IPC Medium Density)
footprint VQ100_L (Thin QFP, 100-Leads, Body 14x14mm, Pitch 0.5mm, IPC High Density)
footprint VQ100_M (Thin QFP, 100-Leads, Body 14x14mm, Pitch 0.5mm, IPC Low Density)
signal-integrity model XC3S250E_VQ100 (Spartan-3E)
part A pins: 78 IO_L01P_0 (io), 79 IO_L01N_0 (io), 83 IO_L02P_0/GCLK4 (io), 84 IO_L02N_0/GCLK5 (io), 85 IO_L03P_0/GCLK6 (io), 86 IO_L03N_0/GCLK7 (io), 90 IO_L05P_0/GCLK10 (io), 91 IO_L05N_0/GCLK11 (io), 92 IO (io), 94 IO_L06P_0 (io), 95 IO_L06N_0/VREF_0 (io), 98 IO_L07P_0 (io), 99 IO_L07N_0/HSWAP (io)
part B pins: 53 IO_L01P_1 (io), 54 IO_L01N_1 (io), 57 IO_L02P_1 (io), 58 IO_L02N_1 (io), 60 IO_L03P_1/RHCLK0 (io), 61 IO_L03N_1/RHCLK1 (io), 62 IO_L04P_1/RHCLK2 (io), 63 IO_L04N_1/RHCLK3 (io), 65 IO_L05P_1/RHCLK4 (io), 66 IO_L05N_1/RHCLK5 (io), 67 IO_L06P_1/RHCLK6 (io), 68 IO_L06N_1/RHCLK7 (io), 70 IO_L07P_1 (io), 71 IO_L07N_1 (io)
part C pins: 24 IO_L01P_2/CSO_B (io), 25 IO_L01N_2/INIT_B (io), 26 IO_L02P_2/DOUT/BUSY (io), 27 IO_L02N_2/MOSI/CSI_B (io), 32 IO_L03P_2/D7/GCLK12 (io), 33 IO_L03N_2/D6/GCLK13 (io), 34 IO/D5 (io), 35 IO_L04P_2/D4/GCLK14 (io), 36 IO_L04N_2/D3/GCLK15 (io), 40 IO_L06P_2/D2/GCLK2 (io), 41 IO_L06N_2/D1/GCLK3 (io), 42 IO/M1 (io), 43 IO_L07P_2/M0 (io), 44 IO_L07N_2/DIN/D0 (io), 47 IO_L08P_2/VS2 (io), 48 IO_L08N_2/VS1 (io), 49 IO_L09P_2/VS0 (io), 50 IO_L09N_2/CCLK (io)
part D pins: 2 IO_L01P_3 (io), 3 IO_L01N_3 (io), 4 IO_L02P_3 (io), 5 IO_L02N_3/VREF_3 (io), 9 IO_L03P_3/LHCLK0 (io), 10 IO_L03N_3/LHCLK1 (io), 11 IO_L04P_3/LHCLK2 (io), 12 IO_L04N_3/LHCLK3 (io), 15 IO_L05P_3/LHCLK4 (io), 16 IO_L05N_3/LHCLK5 (io), 17 IO_L06P_3/LHCLK6 (io), 18 IO_L06N_3/LHCLK7 (io), 22 IO_L07P_3 (io), 23 IO_L07N_3 (io)
part E pins: 13 IP (in), 30 IP/VREF_2 (in), 38 IP_L05P_2/RDWR_B/GCLK0 (in), 39 IP_L05N_2/M2/GCLK1 (in), 69 IP/VREF_1 (in), 88 IP_L04P_0/GCLK8 (in), 89 IP_L04N_0/GCLK9 (in)
part F pins: 1 PROG_B (in), 51 DONE (io), 75 TMS (in), 76 TDO (out), 77 TCK (in), 100 TDI (in)
part G pins: 6 VCCINT (power), 8 VCCO_3 (power), 20 VCCO_3 (power), 21 VCCAUX (power), 28 VCCINT (power), 31 VCCO_2 (power), 45 VCCO_2 (power), 46 VCCAUX (power), 55 VCCO_1 (power), 56 VCCINT (power), 73 VCCO_1 (power), 74 VCCAUX (power), 80 VCCINT (power), 82 VCCO_0 (power), 96 VCCAUX (power), 97 VCCO_0 (power)
part H pins: 7 GND (power), 14 GND (power), 19 GND (power), 29 GND (power), 37 GND (power), 52 GND (power), 59 GND (power), 64 GND (power), 72 GND (power), 81 GND (power), 87 GND (power), 93 GND (power)
part A text: BANK 0
part B text: BANK 1
part C text: BANK 2
part D text: BANK 3

## XC3S250E-4VQ100CS1
designator U?
Spartan-3E 1.2V FPGA, 66 User I/Os, 100-Pin VQFP, Standard Performance, Commercial Grade, Stepping 1; Published: 14-May-2007; LatestRevisionDate: 30-Oct-2009; LatestRevisionNote: Updated to datasheet version 3.8 Aug-2009.; DatasheetVersion: ver3.8, Aug-2009; PackageVersion: ver1.2.1, Feb-2007; PackageReference: VQ100; Publisher: Altium Limited; PackageDescription: 100-Pin Very Thin Quad Flat Pack (VQ100); Code_JEDEC: MS-026-AED; ComponentLink1Description: Spartan-3E Datasheet; ComponentLink1URL: http://www.xilinx.com/support/documentation/data_sheets/ds312.pdf; ComponentLink2Description: VQ100 Package Drawing; ComponentLink2URL: http://www.xilinx.com/support/documentation/package_specs/vq100.pdf; ComponentLink3Description: Spartan-3E Documents; ComponentLink3URL: http://www.xilinx.com/support/documentation/spartan-3e.htm; ComponentLink4Description: Xilinx.com Home; ComponentLink4URL: http://www.xilinx.com
footprint VQ100_N (Thin QFP, 100-Leads, Body 14x14mm, Pitch 0.5mm, IPC Medium Density)
footprint VQ100_L (Thin QFP, 100-Leads, Body 14x14mm, Pitch 0.5mm, IPC High Density)
footprint VQ100_M (Thin QFP, 100-Leads, Body 14x14mm, Pitch 0.5mm, IPC Low Density)
signal-integrity model XC3S250E_VQ100 (Spartan-3E)
part A pins: 78 IO_L01P_0 (io), 79 IO_L01N_0 (io), 83 IO_L02P_0/GCLK4 (io), 84 IO_L02N_0/GCLK5 (io), 85 IO_L03P_0/GCLK6 (io), 86 IO_L03N_0/GCLK7 (io), 90 IO_L05P_0/GCLK10 (io), 91 IO_L05N_0/GCLK11 (io), 92 IO (io), 94 IO_L06P_0 (io), 95 IO_L06N_0/VREF_0 (io), 98 IO_L07P_0 (io), 99 IO_L07N_0/HSWAP (io)
part B pins: 53 IO_L01P_1 (io), 54 IO_L01N_1 (io), 57 IO_L02P_1 (io), 58 IO_L02N_1 (io), 60 IO_L03P_1/RHCLK0 (io), 61 IO_L03N_1/RHCLK1 (io), 62 IO_L04P_1/RHCLK2 (io), 63 IO_L04N_1/RHCLK3 (io), 65 IO_L05P_1/RHCLK4 (io), 66 IO_L05N_1/RHCLK5 (io), 67 IO_L06P_1/RHCLK6 (io), 68 IO_L06N_1/RHCLK7 (io), 70 IO_L07P_1 (io), 71 IO_L07N_1 (io)
part C pins: 24 IO_L01P_2/CSO_B (io), 25 IO_L01N_2/INIT_B (io), 26 IO_L02P_2/DOUT/BUSY (io), 27 IO_L02N_2/MOSI/CSI_B (io), 32 IO_L03P_2/D7/GCLK12 (io), 33 IO_L03N_2/D6/GCLK13 (io), 34 IO/D5 (io), 35 IO_L04P_2/D4/GCLK14 (io), 36 IO_L04N_2/D3/GCLK15 (io), 40 IO_L06P_2/D2/GCLK2 (io), 41 IO_L06N_2/D1/GCLK3 (io), 42 IO/M1 (io), 43 IO_L07P_2/M0 (io), 44 IO_L07N_2/DIN/D0 (io), 47 IO_L08P_2/VS2 (io), 48 IO_L08N_2/VS1 (io), 49 IO_L09P_2/VS0 (io), 50 IO_L09N_2/CCLK (io)
part D pins: 2 IO_L01P_3 (io), 3 IO_L01N_3 (io), 4 IO_L02P_3 (io), 5 IO_L02N_3/VREF_3 (io), 9 IO_L03P_3/LHCLK0 (io), 10 IO_L03N_3/LHCLK1 (io), 11 IO_L04P_3/LHCLK2 (io), 12 IO_L04N_3/LHCLK3 (io), 15 IO_L05P_3/LHCLK4 (io), 16 IO_L05N_3/LHCLK5 (io), 17 IO_L06P_3/LHCLK6 (io), 18 IO_L06N_3/LHCLK7 (io), 22 IO_L07P_3 (io), 23 IO_L07N_3 (io)
part E pins: 13 IP (in), 30 IP/VREF_2 (in), 38 IP_L05P_2/RDWR_B/GCLK0 (in), 39 IP_L05N_2/M2/GCLK1 (in), 69 IP/VREF_1 (in), 88 IP_L04P_0/GCLK8 (in), 89 IP_L04N_0/GCLK9 (in)
part F pins: 1 PROG_B (in), 51 DONE (io), 75 TMS (in), 76 TDO (out), 77 TCK (in), 100 TDI (in)
part G pins: 6 VCCINT (power), 8 VCCO_3 (power), 20 VCCO_3 (power), 21 VCCAUX (power), 28 VCCINT (power), 31 VCCO_2 (power), 45 VCCO_2 (power), 46 VCCAUX (power), 55 VCCO_1 (power), 56 VCCINT (power), 73 VCCO_1 (power), 74 VCCAUX (power), 80 VCCINT (power), 82 VCCO_0 (power), 96 VCCAUX (power), 97 VCCO_0 (power)
part H pins: 7 GND (power), 14 GND (power), 19 GND (power), 29 GND (power), 37 GND (power), 52 GND (power), 59 GND (power), 64 GND (power), 72 GND (power), 81 GND (power), 87 GND (power), 93 GND (power)
part A text: BANK 0
part B text: BANK 1
part C text: BANK 2
part D text: BANK 3

## XC3S250E-4VQ100I
designator U?
Spartan-3E 1.2V FPGA, 66 User I/Os, 100-Pin VQFP, Standard Performance, Industrial Grade; Published: 6-Jun-2005; LatestRevisionDate: 30-Oct-2009; LatestRevisionNote: Updated to datasheet version 3.8 Aug-2009.; DatasheetVersion: ver3.8, Aug-2009; PackageVersion: ver1.2.1, Feb-2007; PackageReference: VQ100; Publisher: Altium Limited; PackageDescription: 100-Pin Very Thin Quad Flat Pack (VQ100); Code_JEDEC: MS-026-AED; ComponentLink1Description: Spartan-3E Datasheet; ComponentLink1URL: http://www.xilinx.com/support/documentation/data_sheets/ds312.pdf; ComponentLink2Description: VQ100 Package Drawing; ComponentLink2URL: http://www.xilinx.com/support/documentation/package_specs/vq100.pdf; ComponentLink3Description: Spartan-3E Documents; ComponentLink3URL: http://www.xilinx.com/support/documentation/spartan-3e.htm; ComponentLink4Description: Xilinx.com Home; ComponentLink4URL: http://www.xilinx.com
footprint VQ100_N (Thin QFP, 100-Leads, Body 14x14mm, Pitch 0.5mm, IPC Medium Density)
footprint VQ100_L (Thin QFP, 100-Leads, Body 14x14mm, Pitch 0.5mm, IPC High Density)
footprint VQ100_M (Thin QFP, 100-Leads, Body 14x14mm, Pitch 0.5mm, IPC Low Density)
signal-integrity model XC3S250E_VQ100 (Spartan-3E)
part A pins: 78 IO_L01P_0 (io), 79 IO_L01N_0 (io), 83 IO_L02P_0/GCLK4 (io), 84 IO_L02N_0/GCLK5 (io), 85 IO_L03P_0/GCLK6 (io), 86 IO_L03N_0/GCLK7 (io), 90 IO_L05P_0/GCLK10 (io), 91 IO_L05N_0/GCLK11 (io), 92 IO (io), 94 IO_L06P_0 (io), 95 IO_L06N_0/VREF_0 (io), 98 IO_L07P_0 (io), 99 IO_L07N_0/HSWAP (io)
part B pins: 53 IO_L01P_1 (io), 54 IO_L01N_1 (io), 57 IO_L02P_1 (io), 58 IO_L02N_1 (io), 60 IO_L03P_1/RHCLK0 (io), 61 IO_L03N_1/RHCLK1 (io), 62 IO_L04P_1/RHCLK2 (io), 63 IO_L04N_1/RHCLK3 (io), 65 IO_L05P_1/RHCLK4 (io), 66 IO_L05N_1/RHCLK5 (io), 67 IO_L06P_1/RHCLK6 (io), 68 IO_L06N_1/RHCLK7 (io), 70 IO_L07P_1 (io), 71 IO_L07N_1 (io)
part C pins: 24 IO_L01P_2/CSO_B (io), 25 IO_L01N_2/INIT_B (io), 26 IO_L02P_2/DOUT/BUSY (io), 27 IO_L02N_2/MOSI/CSI_B (io), 32 IO_L03P_2/D7/GCLK12 (io), 33 IO_L03N_2/D6/GCLK13 (io), 34 IO/D5 (io), 35 IO_L04P_2/D4/GCLK14 (io), 36 IO_L04N_2/D3/GCLK15 (io), 40 IO_L06P_2/D2/GCLK2 (io), 41 IO_L06N_2/D1/GCLK3 (io), 42 IO/M1 (io), 43 IO_L07P_2/M0 (io), 44 IO_L07N_2/DIN/D0 (io), 47 IO_L08P_2/VS2 (io), 48 IO_L08N_2/VS1 (io), 49 IO_L09P_2/VS0 (io), 50 IO_L09N_2/CCLK (io)
part D pins: 2 IO_L01P_3 (io), 3 IO_L01N_3 (io), 4 IO_L02P_3 (io), 5 IO_L02N_3/VREF_3 (io), 9 IO_L03P_3/LHCLK0 (io), 10 IO_L03N_3/LHCLK1 (io), 11 IO_L04P_3/LHCLK2 (io), 12 IO_L04N_3/LHCLK3 (io), 15 IO_L05P_3/LHCLK4 (io), 16 IO_L05N_3/LHCLK5 (io), 17 IO_L06P_3/LHCLK6 (io), 18 IO_L06N_3/LHCLK7 (io), 22 IO_L07P_3 (io), 23 IO_L07N_3 (io)
part E pins: 13 IP (in), 30 IP/VREF_2 (in), 38 IP_L05P_2/RDWR_B/GCLK0 (in), 39 IP_L05N_2/M2/GCLK1 (in), 69 IP/VREF_1 (in), 88 IP_L04P_0/GCLK8 (in), 89 IP_L04N_0/GCLK9 (in)
part F pins: 1 PROG_B (in), 51 DONE (io), 75 TMS (in), 76 TDO (out), 77 TCK (in), 100 TDI (in)
part G pins: 6 VCCINT (power), 8 VCCO_3 (power), 20 VCCO_3 (power), 21 VCCAUX (power), 28 VCCINT (power), 31 VCCO_2 (power), 45 VCCO_2 (power), 46 VCCAUX (power), 55 VCCO_1 (power), 56 VCCINT (power), 73 VCCO_1 (power), 74 VCCAUX (power), 80 VCCINT (power), 82 VCCO_0 (power), 96 VCCAUX (power), 97 VCCO_0 (power)
part H pins: 7 GND (power), 14 GND (power), 19 GND (power), 29 GND (power), 37 GND (power), 52 GND (power), 59 GND (power), 64 GND (power), 72 GND (power), 81 GND (power), 87 GND (power), 93 GND (power)
part A text: BANK 0
part B text: BANK 1
part C text: BANK 2
part D text: BANK 3

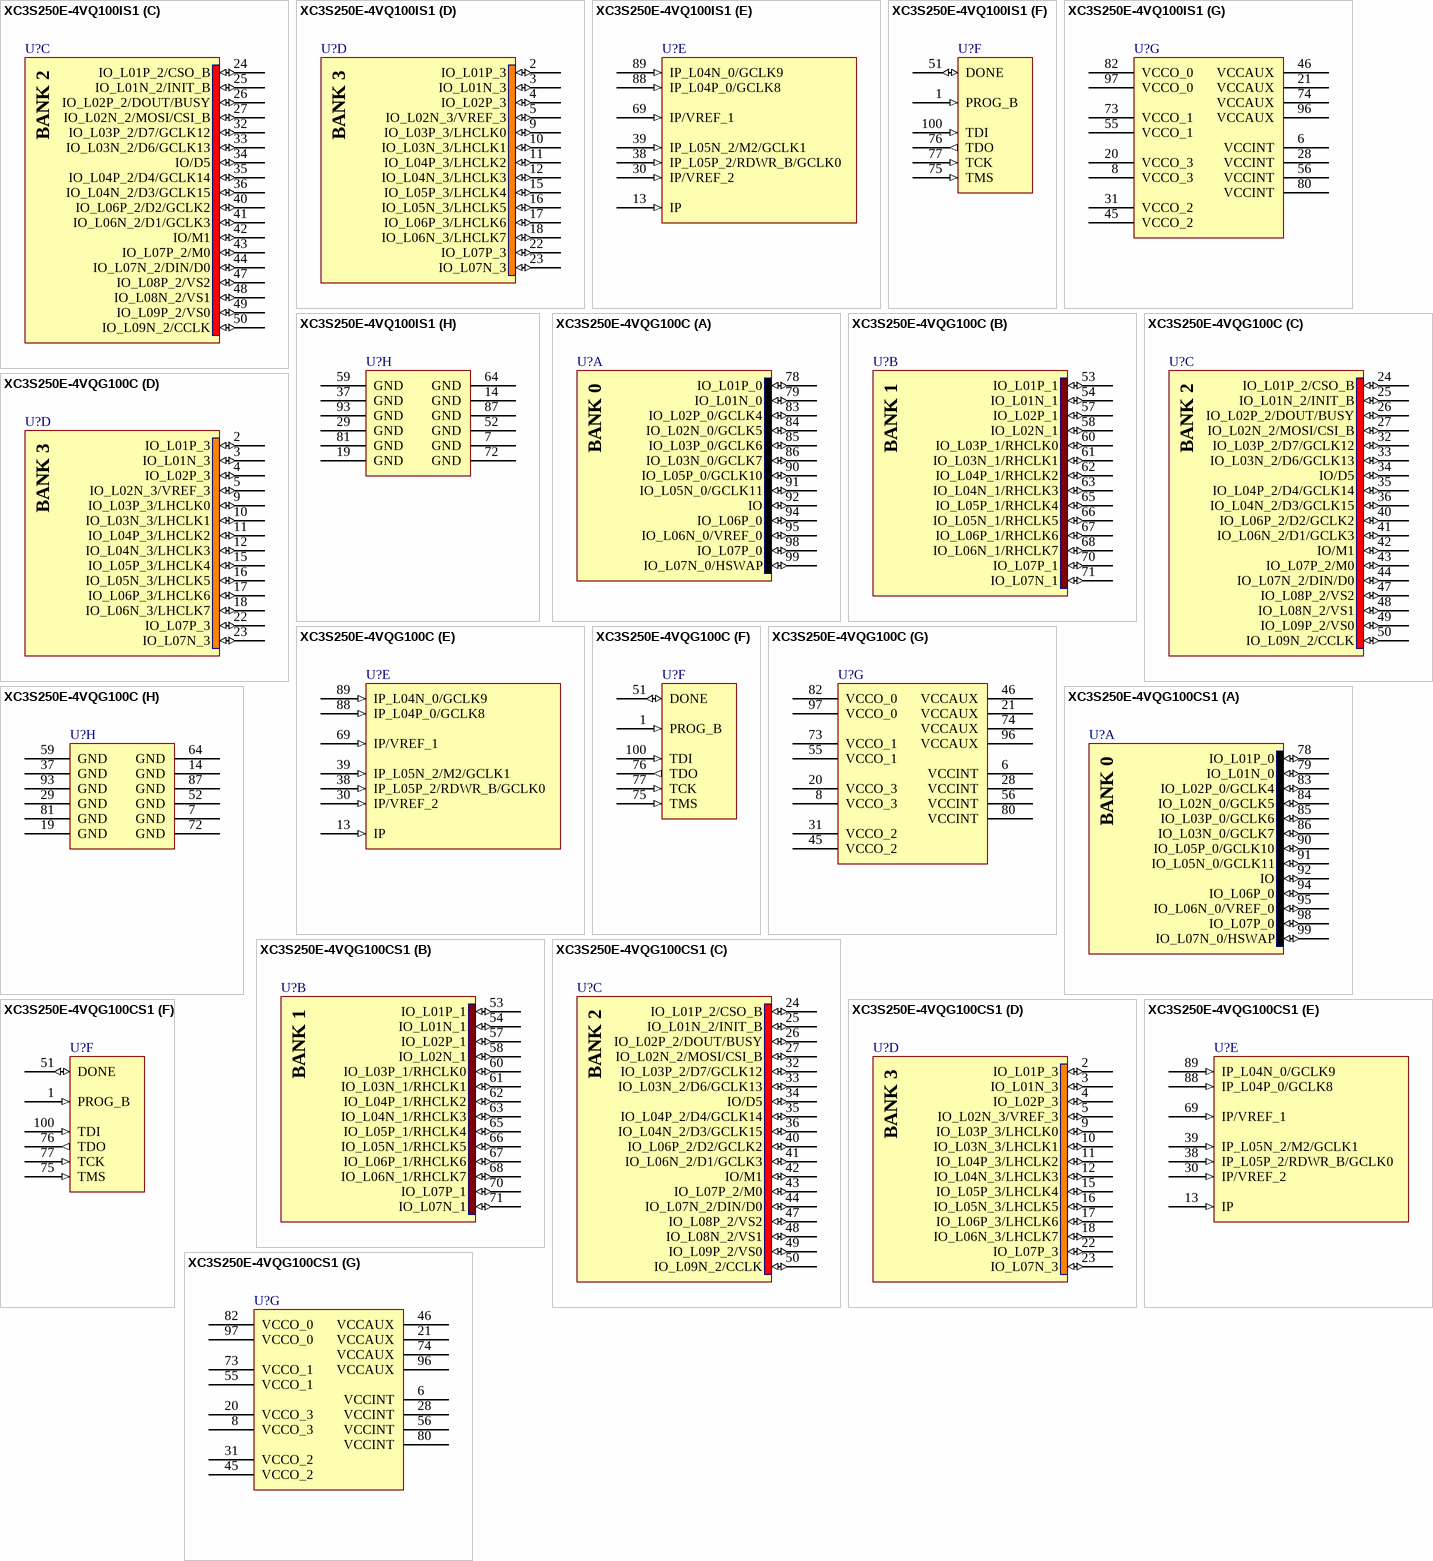
[diagram p39: symbols XC3S250E-4VQ100IS1 to XC3S250E-4VQG100CS1]

## XC3S250E-4VQ100IS1
designator U?
Spartan-3E 1.2V FPGA, 66 User I/Os, 100-Pin VQFP, Standard Performance, Industrial Grade, Stepping 1; Published: 14-May-2007; LatestRevisionDate: 30-Oct-2009; LatestRevisionNote: Updated to datasheet version 3.8 Aug-2009.; DatasheetVersion: ver3.8, Aug-2009; PackageVersion: ver1.2.1, Feb-2007; PackageReference: VQ100; Publisher: Altium Limited; PackageDescription: 100-Pin Very Thin Quad Flat Pack (VQ100); Code_JEDEC: MS-026-AED; ComponentLink1Description: Spartan-3E Datasheet; ComponentLink1URL: http://www.xilinx.com/support/documentation/data_sheets/ds312.pdf; ComponentLink2Description: VQ100 Package Drawing; ComponentLink2URL: http://www.xilinx.com/support/documentation/package_specs/vq100.pdf; ComponentLink3Description: Spartan-3E Documents; ComponentLink3URL: http://www.xilinx.com/support/documentation/spartan-3e.htm; ComponentLink4Description: Xilinx.com Home; ComponentLink4URL: http://www.xilinx.com
footprint VQ100_N (Thin QFP, 100-Leads, Body 14x14mm, Pitch 0.5mm, IPC Medium Density)
footprint VQ100_L (Thin QFP, 100-Leads, Body 14x14mm, Pitch 0.5mm, IPC High Density)
footprint VQ100_M (Thin QFP, 100-Leads, Body 14x14mm, Pitch 0.5mm, IPC Low Density)
signal-integrity model XC3S250E_VQ100 (Spartan-3E)
part A pins: 78 IO_L01P_0 (io), 79 IO_L01N_0 (io), 83 IO_L02P_0/GCLK4 (io), 84 IO_L02N_0/GCLK5 (io), 85 IO_L03P_0/GCLK6 (io), 86 IO_L03N_0/GCLK7 (io), 90 IO_L05P_0/GCLK10 (io), 91 IO_L05N_0/GCLK11 (io), 92 IO (io), 94 IO_L06P_0 (io), 95 IO_L06N_0/VREF_0 (io), 98 IO_L07P_0 (io), 99 IO_L07N_0/HSWAP (io)
part B pins: 53 IO_L01P_1 (io), 54 IO_L01N_1 (io), 57 IO_L02P_1 (io), 58 IO_L02N_1 (io), 60 IO_L03P_1/RHCLK0 (io), 61 IO_L03N_1/RHCLK1 (io), 62 IO_L04P_1/RHCLK2 (io), 63 IO_L04N_1/RHCLK3 (io), 65 IO_L05P_1/RHCLK4 (io), 66 IO_L05N_1/RHCLK5 (io), 67 IO_L06P_1/RHCLK6 (io), 68 IO_L06N_1/RHCLK7 (io), 70 IO_L07P_1 (io), 71 IO_L07N_1 (io)
part C pins: 24 IO_L01P_2/CSO_B (io), 25 IO_L01N_2/INIT_B (io), 26 IO_L02P_2/DOUT/BUSY (io), 27 IO_L02N_2/MOSI/CSI_B (io), 32 IO_L03P_2/D7/GCLK12 (io), 33 IO_L03N_2/D6/GCLK13 (io), 34 IO/D5 (io), 35 IO_L04P_2/D4/GCLK14 (io), 36 IO_L04N_2/D3/GCLK15 (io), 40 IO_L06P_2/D2/GCLK2 (io), 41 IO_L06N_2/D1/GCLK3 (io), 42 IO/M1 (io), 43 IO_L07P_2/M0 (io), 44 IO_L07N_2/DIN/D0 (io), 47 IO_L08P_2/VS2 (io), 48 IO_L08N_2/VS1 (io), 49 IO_L09P_2/VS0 (io), 50 IO_L09N_2/CCLK (io)
part D pins: 2 IO_L01P_3 (io), 3 IO_L01N_3 (io), 4 IO_L02P_3 (io), 5 IO_L02N_3/VREF_3 (io), 9 IO_L03P_3/LHCLK0 (io), 10 IO_L03N_3/LHCLK1 (io), 11 IO_L04P_3/LHCLK2 (io), 12 IO_L04N_3/LHCLK3 (io), 15 IO_L05P_3/LHCLK4 (io), 16 IO_L05N_3/LHCLK5 (io), 17 IO_L06P_3/LHCLK6 (io), 18 IO_L06N_3/LHCLK7 (io), 22 IO_L07P_3 (io), 23 IO_L07N_3 (io)
part E pins: 13 IP (in), 30 IP/VREF_2 (in), 38 IP_L05P_2/RDWR_B/GCLK0 (in), 39 IP_L05N_2/M2/GCLK1 (in), 69 IP/VREF_1 (in), 88 IP_L04P_0/GCLK8 (in), 89 IP_L04N_0/GCLK9 (in)
part F pins: 1 PROG_B (in), 51 DONE (io), 75 TMS (in), 76 TDO (out), 77 TCK (in), 100 TDI (in)
part G pins: 6 VCCINT (power), 8 VCCO_3 (power), 20 VCCO_3 (power), 21 VCCAUX (power), 28 VCCINT (power), 31 VCCO_2 (power), 45 VCCO_2 (power), 46 VCCAUX (power), 55 VCCO_1 (power), 56 VCCINT (power), 73 VCCO_1 (power), 74 VCCAUX (power), 80 VCCINT (power), 82 VCCO_0 (power), 96 VCCAUX (power), 97 VCCO_0 (power)
part H pins: 7 GND (power), 14 GND (power), 19 GND (power), 29 GND (power), 37 GND (power), 52 GND (power), 59 GND (power), 64 GND (power), 72 GND (power), 81 GND (power), 87 GND (power), 93 GND (power)
part A text: BANK 0
part B text: BANK 1
part C text: BANK 2
part D text: BANK 3

## XC3S250E-4VQG100C
designator U?
Spartan-3E 1.2V FPGA, 66 User I/Os, 100-Pin VQFP, Standard Performance, Commercial Grade, Pb-Free; Published: 6-Jun-2005; LatestRevisionDate: 30-Oct-2009; LatestRevisionNote: Updated to datasheet version 3.8 Aug-2009.; DatasheetVersion: ver3.8, Aug-2009; PackageVersion: ver1.2.1, Feb-2007; PackageReference: VQG100; Publisher: Altium Limited; PackageDescription: 100-Pin Very Thin Quad Flat Pack (VQG100) - Pb-Free; Supplier 1: Digi-Key; Supplier Part Number 1: 122-1525-ND; Code_JEDEC: MS-026-AED; ComponentLink1Description: Spartan-3E Datasheet; ComponentLink1URL: http://www.xilinx.com/support/documentation/data_sheets/ds312.pdf; ComponentLink2Description: VQG100 Package Drawing; ComponentLink2URL: http://www.xilinx.com/support/documentation/package_specs/vq100.pdf; ComponentLink3Description: Spartan-3E Documents; ComponentLink3URL: http://www.xilinx.com/support/documentation/spartan-3e.htm; ComponentLink4Description: Xilinx.com Home; ComponentLink4URL: http://www.xilinx.com
footprint VQG100_N (Thin QFP, 100-Leads, Body 14x14mm, Pitch 0.5mm, IPC Medium Density)
footprint VQG100_L (Thin QFP, 100-Leads, Body 14x14mm, Pitch 0.5mm, IPC High Density)
footprint VQG100_M (Thin QFP, 100-Leads, Body 14x14mm, Pitch 0.5mm, IPC Low Density)
signal-integrity model XC3S250E_VQG100 (Spartan-3E)
part A pins: 78 IO_L01P_0 (io), 79 IO_L01N_0 (io), 83 IO_L02P_0/GCLK4 (io), 84 IO_L02N_0/GCLK5 (io), 85 IO_L03P_0/GCLK6 (io), 86 IO_L03N_0/GCLK7 (io), 90 IO_L05P_0/GCLK10 (io), 91 IO_L05N_0/GCLK11 (io), 92 IO (io), 94 IO_L06P_0 (io), 95 IO_L06N_0/VREF_0 (io), 98 IO_L07P_0 (io), 99 IO_L07N_0/HSWAP (io)
part B pins: 53 IO_L01P_1 (io), 54 IO_L01N_1 (io), 57 IO_L02P_1 (io), 58 IO_L02N_1 (io), 60 IO_L03P_1/RHCLK0 (io), 61 IO_L03N_1/RHCLK1 (io), 62 IO_L04P_1/RHCLK2 (io), 63 IO_L04N_1/RHCLK3 (io), 65 IO_L05P_1/RHCLK4 (io), 66 IO_L05N_1/RHCLK5 (io), 67 IO_L06P_1/RHCLK6 (io), 68 IO_L06N_1/RHCLK7 (io), 70 IO_L07P_1 (io), 71 IO_L07N_1 (io)
part C pins: 24 IO_L01P_2/CSO_B (io), 25 IO_L01N_2/INIT_B (io), 26 IO_L02P_2/DOUT/BUSY (io), 27 IO_L02N_2/MOSI/CSI_B (io), 32 IO_L03P_2/D7/GCLK12 (io), 33 IO_L03N_2/D6/GCLK13 (io), 34 IO/D5 (io), 35 IO_L04P_2/D4/GCLK14 (io), 36 IO_L04N_2/D3/GCLK15 (io), 40 IO_L06P_2/D2/GCLK2 (io), 41 IO_L06N_2/D1/GCLK3 (io), 42 IO/M1 (io), 43 IO_L07P_2/M0 (io), 44 IO_L07N_2/DIN/D0 (io), 47 IO_L08P_2/VS2 (io), 48 IO_L08N_2/VS1 (io), 49 IO_L09P_2/VS0 (io), 50 IO_L09N_2/CCLK (io)
part D pins: 2 IO_L01P_3 (io), 3 IO_L01N_3 (io), 4 IO_L02P_3 (io), 5 IO_L02N_3/VREF_3 (io), 9 IO_L03P_3/LHCLK0 (io), 10 IO_L03N_3/LHCLK1 (io), 11 IO_L04P_3/LHCLK2 (io), 12 IO_L04N_3/LHCLK3 (io), 15 IO_L05P_3/LHCLK4 (io), 16 IO_L05N_3/LHCLK5 (io), 17 IO_L06P_3/LHCLK6 (io), 18 IO_L06N_3/LHCLK7 (io), 22 IO_L07P_3 (io), 23 IO_L07N_3 (io)
part E pins: 13 IP (in), 30 IP/VREF_2 (in), 38 IP_L05P_2/RDWR_B/GCLK0 (in), 39 IP_L05N_2/M2/GCLK1 (in), 69 IP/VREF_1 (in), 88 IP_L04P_0/GCLK8 (in), 89 IP_L04N_0/GCLK9 (in)
part F pins: 1 PROG_B (in), 51 DONE (io), 75 TMS (in), 76 TDO (out), 77 TCK (in), 100 TDI (in)
part G pins: 6 VCCINT (power), 8 VCCO_3 (power), 20 VCCO_3 (power), 21 VCCAUX (power), 28 VCCINT (power), 31 VCCO_2 (power), 45 VCCO_2 (power), 46 VCCAUX (power), 55 VCCO_1 (power), 56 VCCINT (power), 73 VCCO_1 (power), 74 VCCAUX (power), 80 VCCINT (power), 82 VCCO_0 (power), 96 VCCAUX (power), 97 VCCO_0 (power)
part H pins: 7 GND (power), 14 GND (power), 19 GND (power), 29 GND (power), 37 GND (power), 52 GND (power), 59 GND (power), 64 GND (power), 72 GND (power), 81 GND (power), 87 GND (power), 93 GND (power)
part A text: BANK 0
part B text: BANK 1
part C text: BANK 2
part D text: BANK 3

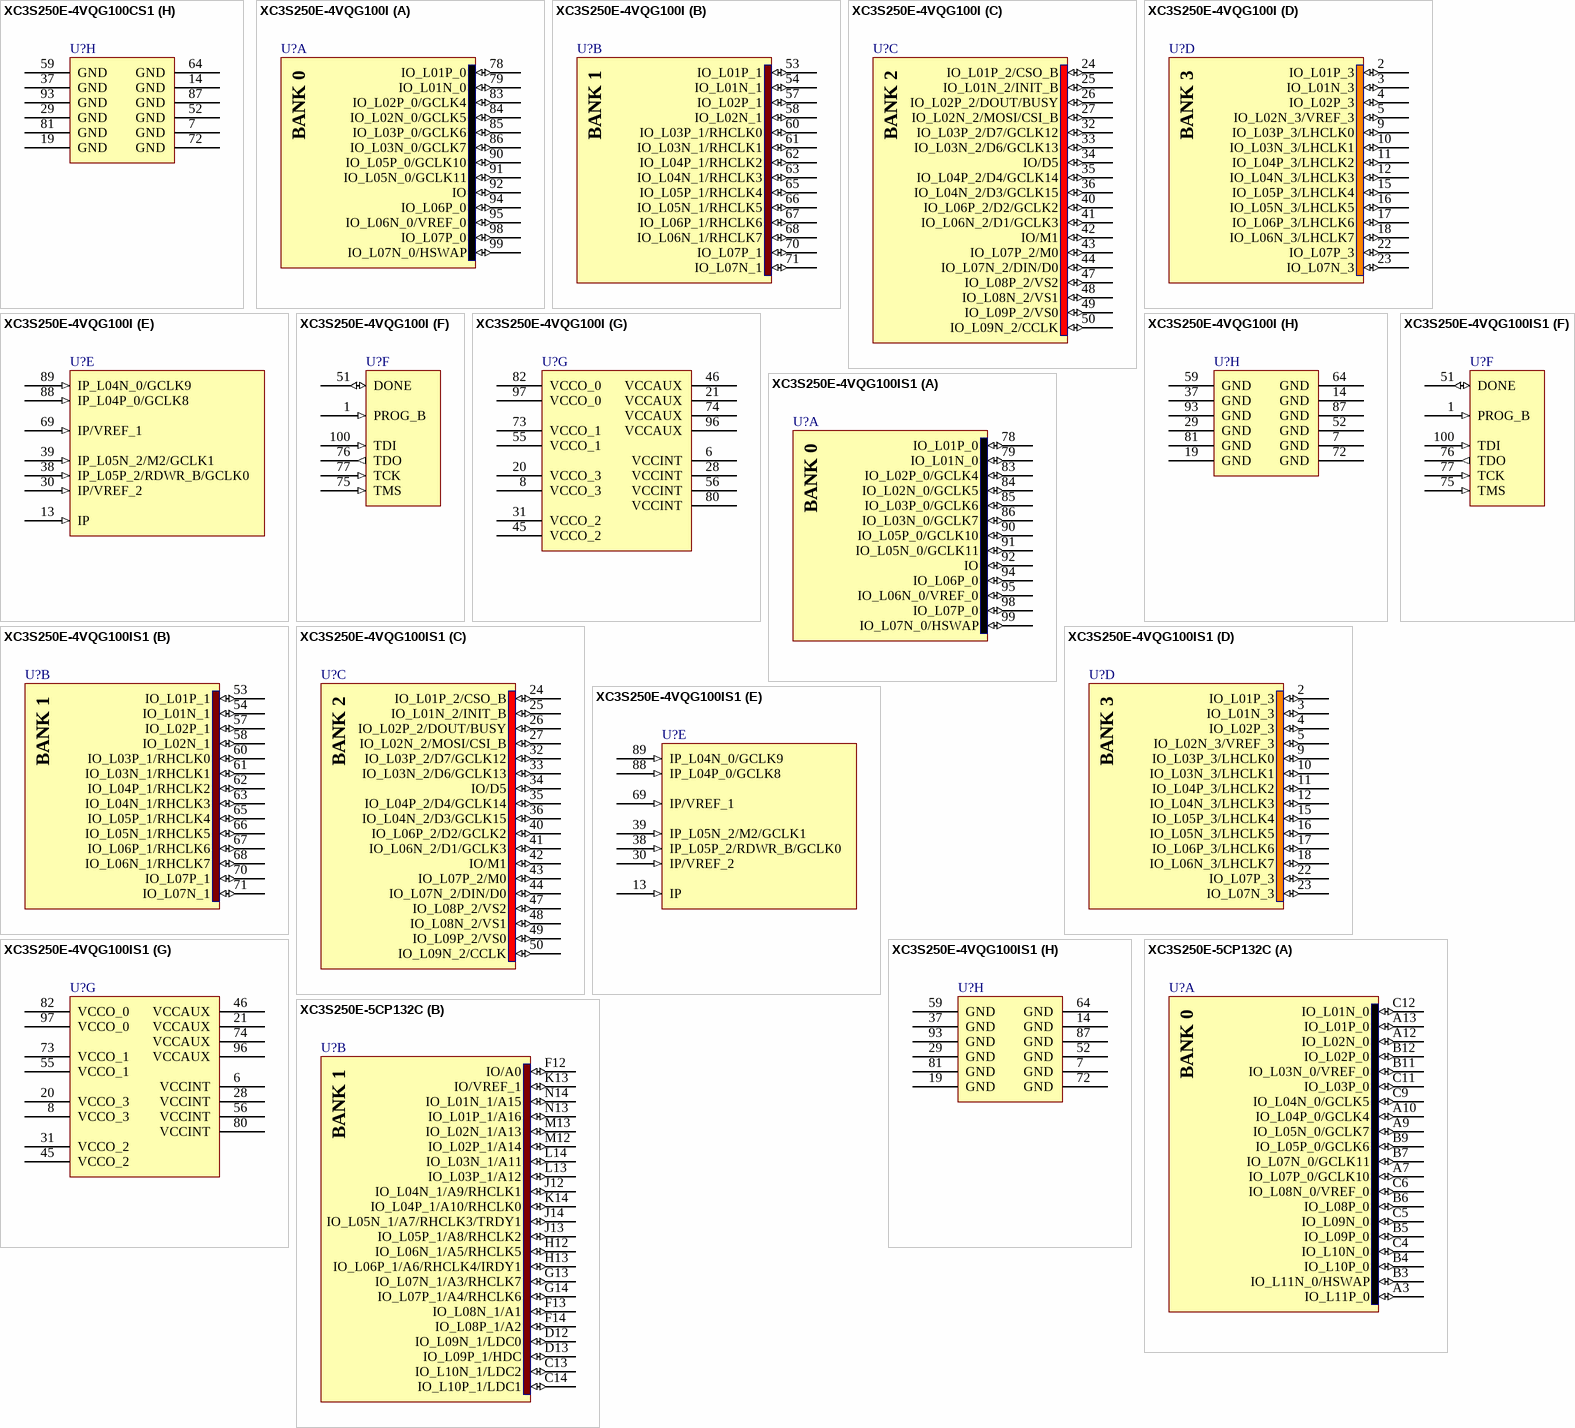
[diagram p40: symbols XC3S250E-4VQG100CS1 to XC3S250E-5CP132C]

## XC3S250E-4VQG100CS1
designator U?
Spartan-3E 1.2V FPGA, 66 User I/Os, 100-Pin VQFP, Standard Performance, Commercial Grade, Stepping 1, Pb-Free; Published: 14-May-2007; LatestRevisionDate: 30-Oct-2009; LatestRevisionNote: Updated to datasheet version 3.8 Aug-2009.; DatasheetVersion: ver3.8, Aug-2009; PackageVersion: ver1.2.1, Feb-2007; PackageReference: VQG100; Publisher: Altium Limited; PackageDescription: 100-Pin Very Thin Quad Flat Pack (VQG100) - Pb-Free; Code_JEDEC: MS-026-AED; ComponentLink1Description: Spartan-3E Datasheet; ComponentLink1URL: http://www.xilinx.com/support/documentation/data_sheets/ds312.pdf; ComponentLink2Description: VQG100 Package Drawing; ComponentLink2URL: http://www.xilinx.com/support/documentation/package_specs/vq100.pdf; ComponentLink3Description: Spartan-3E Documents; ComponentLink3URL: http://www.xilinx.com/support/documentation/spartan-3e.htm; ComponentLink4Description: Xilinx.com Home; ComponentLink4URL: http://www.xilinx.com
footprint VQG100_N (Thin QFP, 100-Leads, Body 14x14mm, Pitch 0.5mm, IPC Medium Density)
footprint VQG100_L (Thin QFP, 100-Leads, Body 14x14mm, Pitch 0.5mm, IPC High Density)
footprint VQG100_M (Thin QFP, 100-Leads, Body 14x14mm, Pitch 0.5mm, IPC Low Density)
signal-integrity model XC3S250E_VQG100 (Spartan-3E)
part A pins: 78 IO_L01P_0 (io), 79 IO_L01N_0 (io), 83 IO_L02P_0/GCLK4 (io), 84 IO_L02N_0/GCLK5 (io), 85 IO_L03P_0/GCLK6 (io), 86 IO_L03N_0/GCLK7 (io), 90 IO_L05P_0/GCLK10 (io), 91 IO_L05N_0/GCLK11 (io), 92 IO (io), 94 IO_L06P_0 (io), 95 IO_L06N_0/VREF_0 (io), 98 IO_L07P_0 (io), 99 IO_L07N_0/HSWAP (io)
part B pins: 53 IO_L01P_1 (io), 54 IO_L01N_1 (io), 57 IO_L02P_1 (io), 58 IO_L02N_1 (io), 60 IO_L03P_1/RHCLK0 (io), 61 IO_L03N_1/RHCLK1 (io), 62 IO_L04P_1/RHCLK2 (io), 63 IO_L04N_1/RHCLK3 (io), 65 IO_L05P_1/RHCLK4 (io), 66 IO_L05N_1/RHCLK5 (io), 67 IO_L06P_1/RHCLK6 (io), 68 IO_L06N_1/RHCLK7 (io), 70 IO_L07P_1 (io), 71 IO_L07N_1 (io)
part C pins: 24 IO_L01P_2/CSO_B (io), 25 IO_L01N_2/INIT_B (io), 26 IO_L02P_2/DOUT/BUSY (io), 27 IO_L02N_2/MOSI/CSI_B (io), 32 IO_L03P_2/D7/GCLK12 (io), 33 IO_L03N_2/D6/GCLK13 (io), 34 IO/D5 (io), 35 IO_L04P_2/D4/GCLK14 (io), 36 IO_L04N_2/D3/GCLK15 (io), 40 IO_L06P_2/D2/GCLK2 (io), 41 IO_L06N_2/D1/GCLK3 (io), 42 IO/M1 (io), 43 IO_L07P_2/M0 (io), 44 IO_L07N_2/DIN/D0 (io), 47 IO_L08P_2/VS2 (io), 48 IO_L08N_2/VS1 (io), 49 IO_L09P_2/VS0 (io), 50 IO_L09N_2/CCLK (io)
part D pins: 2 IO_L01P_3 (io), 3 IO_L01N_3 (io), 4 IO_L02P_3 (io), 5 IO_L02N_3/VREF_3 (io), 9 IO_L03P_3/LHCLK0 (io), 10 IO_L03N_3/LHCLK1 (io), 11 IO_L04P_3/LHCLK2 (io), 12 IO_L04N_3/LHCLK3 (io), 15 IO_L05P_3/LHCLK4 (io), 16 IO_L05N_3/LHCLK5 (io), 17 IO_L06P_3/LHCLK6 (io), 18 IO_L06N_3/LHCLK7 (io), 22 IO_L07P_3 (io), 23 IO_L07N_3 (io)
part E pins: 13 IP (in), 30 IP/VREF_2 (in), 38 IP_L05P_2/RDWR_B/GCLK0 (in), 39 IP_L05N_2/M2/GCLK1 (in), 69 IP/VREF_1 (in), 88 IP_L04P_0/GCLK8 (in), 89 IP_L04N_0/GCLK9 (in)
part F pins: 1 PROG_B (in), 51 DONE (io), 75 TMS (in), 76 TDO (out), 77 TCK (in), 100 TDI (in)
part G pins: 6 VCCINT (power), 8 VCCO_3 (power), 20 VCCO_3 (power), 21 VCCAUX (power), 28 VCCINT (power), 31 VCCO_2 (power), 45 VCCO_2 (power), 46 VCCAUX (power), 55 VCCO_1 (power), 56 VCCINT (power), 73 VCCO_1 (power), 74 VCCAUX (power), 80 VCCINT (power), 82 VCCO_0 (power), 96 VCCAUX (power), 97 VCCO_0 (power)
part H pins: 7 GND (power), 14 GND (power), 19 GND (power), 29 GND (power), 37 GND (power), 52 GND (power), 59 GND (power), 64 GND (power), 72 GND (power), 81 GND (power), 87 GND (power), 93 GND (power)
part A text: BANK 0
part B text: BANK 1
part C text: BANK 2
part D text: BANK 3

## XC3S250E-4VQG100I
designator U?
Spartan-3E 1.2V FPGA, 66 User I/Os, 100-Pin VQFP, Standard Performance, Industrial Grade, Pb-Free; Published: 6-Jun-2005; LatestRevisionDate: 30-Oct-2009; LatestRevisionNote: Updated to datasheet version 3.8 Aug-2009.; DatasheetVersion: ver3.8, Aug-2009; PackageVersion: ver1.2.1, Feb-2007; PackageReference: VQG100; Publisher: Altium Limited; PackageDescription: 100-Pin Very Thin Quad Flat Pack (VQG100) - Pb-Free; Supplier 1: Digi-Key; Supplier Part Number 1: XC3S250E-4VQG100I-ND; Code_JEDEC: MS-026-AED; ComponentLink1Description: Spartan-3E Datasheet; ComponentLink1URL: http://www.xilinx.com/support/documentation/data_sheets/ds312.pdf; ComponentLink2Description: VQG100 Package Drawing; ComponentLink2URL: http://www.xilinx.com/support/documentation/package_specs/vq100.pdf; ComponentLink3Description: Spartan-3E Documents; ComponentLink3URL: http://www.xilinx.com/support/documentation/spartan-3e.htm; ComponentLink4Description: Xilinx.com Home; ComponentLink4URL: http://www.xilinx.com
footprint VQG100_N (Thin QFP, 100-Leads, Body 14x14mm, Pitch 0.5mm, IPC Medium Density)
footprint VQG100_L (Thin QFP, 100-Leads, Body 14x14mm, Pitch 0.5mm, IPC High Density)
footprint VQG100_M (Thin QFP, 100-Leads, Body 14x14mm, Pitch 0.5mm, IPC Low Density)
signal-integrity model XC3S250E_VQG100 (Spartan-3E)
part A pins: 78 IO_L01P_0 (io), 79 IO_L01N_0 (io), 83 IO_L02P_0/GCLK4 (io), 84 IO_L02N_0/GCLK5 (io), 85 IO_L03P_0/GCLK6 (io), 86 IO_L03N_0/GCLK7 (io), 90 IO_L05P_0/GCLK10 (io), 91 IO_L05N_0/GCLK11 (io), 92 IO (io), 94 IO_L06P_0 (io), 95 IO_L06N_0/VREF_0 (io), 98 IO_L07P_0 (io), 99 IO_L07N_0/HSWAP (io)
part B pins: 53 IO_L01P_1 (io), 54 IO_L01N_1 (io), 57 IO_L02P_1 (io), 58 IO_L02N_1 (io), 60 IO_L03P_1/RHCLK0 (io), 61 IO_L03N_1/RHCLK1 (io), 62 IO_L04P_1/RHCLK2 (io), 63 IO_L04N_1/RHCLK3 (io), 65 IO_L05P_1/RHCLK4 (io), 66 IO_L05N_1/RHCLK5 (io), 67 IO_L06P_1/RHCLK6 (io), 68 IO_L06N_1/RHCLK7 (io), 70 IO_L07P_1 (io), 71 IO_L07N_1 (io)
part C pins: 24 IO_L01P_2/CSO_B (io), 25 IO_L01N_2/INIT_B (io), 26 IO_L02P_2/DOUT/BUSY (io), 27 IO_L02N_2/MOSI/CSI_B (io), 32 IO_L03P_2/D7/GCLK12 (io), 33 IO_L03N_2/D6/GCLK13 (io), 34 IO/D5 (io), 35 IO_L04P_2/D4/GCLK14 (io), 36 IO_L04N_2/D3/GCLK15 (io), 40 IO_L06P_2/D2/GCLK2 (io), 41 IO_L06N_2/D1/GCLK3 (io), 42 IO/M1 (io), 43 IO_L07P_2/M0 (io), 44 IO_L07N_2/DIN/D0 (io), 47 IO_L08P_2/VS2 (io), 48 IO_L08N_2/VS1 (io), 49 IO_L09P_2/VS0 (io), 50 IO_L09N_2/CCLK (io)
part D pins: 2 IO_L01P_3 (io), 3 IO_L01N_3 (io), 4 IO_L02P_3 (io), 5 IO_L02N_3/VREF_3 (io), 9 IO_L03P_3/LHCLK0 (io), 10 IO_L03N_3/LHCLK1 (io), 11 IO_L04P_3/LHCLK2 (io), 12 IO_L04N_3/LHCLK3 (io), 15 IO_L05P_3/LHCLK4 (io), 16 IO_L05N_3/LHCLK5 (io), 17 IO_L06P_3/LHCLK6 (io), 18 IO_L06N_3/LHCLK7 (io), 22 IO_L07P_3 (io), 23 IO_L07N_3 (io)
part E pins: 13 IP (in), 30 IP/VREF_2 (in), 38 IP_L05P_2/RDWR_B/GCLK0 (in), 39 IP_L05N_2/M2/GCLK1 (in), 69 IP/VREF_1 (in), 88 IP_L04P_0/GCLK8 (in), 89 IP_L04N_0/GCLK9 (in)
part F pins: 1 PROG_B (in), 51 DONE (io), 75 TMS (in), 76 TDO (out), 77 TCK (in), 100 TDI (in)
part G pins: 6 VCCINT (power), 8 VCCO_3 (power), 20 VCCO_3 (power), 21 VCCAUX (power), 28 VCCINT (power), 31 VCCO_2 (power), 45 VCCO_2 (power), 46 VCCAUX (power), 55 VCCO_1 (power), 56 VCCINT (power), 73 VCCO_1 (power), 74 VCCAUX (power), 80 VCCINT (power), 82 VCCO_0 (power), 96 VCCAUX (power), 97 VCCO_0 (power)
part H pins: 7 GND (power), 14 GND (power), 19 GND (power), 29 GND (power), 37 GND (power), 52 GND (power), 59 GND (power), 64 GND (power), 72 GND (power), 81 GND (power), 87 GND (power), 93 GND (power)
part A text: BANK 0
part B text: BANK 1
part C text: BANK 2
part D text: BANK 3

## XC3S250E-4VQG100IS1
designator U?
Spartan-3E 1.2V FPGA, 66 User I/Os, 100-Pin VQFP, Standard Performance, Industrial Grade, Stepping 1, Pb-Free; Published: 14-May-2007; LatestRevisionDate: 30-Oct-2009; LatestRevisionNote: Updated to datasheet version 3.8 Aug-2009.; DatasheetVersion: ver3.8, Aug-2009; PackageVersion: ver1.2.1, Feb-2007; PackageReference: VQG100; Publisher: Altium Limited; PackageDescription: 100-Pin Very Thin Quad Flat Pack (VQG100) - Pb-Free; Code_JEDEC: MS-026-AED; ComponentLink1Description: Spartan-3E Datasheet; ComponentLink1URL: http://www.xilinx.com/support/documentation/data_sheets/ds312.pdf; ComponentLink2Description: VQG100 Package Drawing; ComponentLink2URL: http://www.xilinx.com/support/documentation/package_specs/vq100.pdf; ComponentLink3Description: Spartan-3E Documents; ComponentLink3URL: http://www.xilinx.com/support/documentation/spartan-3e.htm; ComponentLink4Description: Xilinx.com Home; ComponentLink4URL: http://www.xilinx.com
footprint VQG100_N (Thin QFP, 100-Leads, Body 14x14mm, Pitch 0.5mm, IPC Medium Density)
footprint VQG100_L (Thin QFP, 100-Leads, Body 14x14mm, Pitch 0.5mm, IPC High Density)
footprint VQG100_M (Thin QFP, 100-Leads, Body 14x14mm, Pitch 0.5mm, IPC Low Density)
signal-integrity model XC3S250E_VQG100 (Spartan-3E)
part A pins: 78 IO_L01P_0 (io), 79 IO_L01N_0 (io), 83 IO_L02P_0/GCLK4 (io), 84 IO_L02N_0/GCLK5 (io), 85 IO_L03P_0/GCLK6 (io), 86 IO_L03N_0/GCLK7 (io), 90 IO_L05P_0/GCLK10 (io), 91 IO_L05N_0/GCLK11 (io), 92 IO (io), 94 IO_L06P_0 (io), 95 IO_L06N_0/VREF_0 (io), 98 IO_L07P_0 (io), 99 IO_L07N_0/HSWAP (io)
part B pins: 53 IO_L01P_1 (io), 54 IO_L01N_1 (io), 57 IO_L02P_1 (io), 58 IO_L02N_1 (io), 60 IO_L03P_1/RHCLK0 (io), 61 IO_L03N_1/RHCLK1 (io), 62 IO_L04P_1/RHCLK2 (io), 63 IO_L04N_1/RHCLK3 (io), 65 IO_L05P_1/RHCLK4 (io), 66 IO_L05N_1/RHCLK5 (io), 67 IO_L06P_1/RHCLK6 (io), 68 IO_L06N_1/RHCLK7 (io), 70 IO_L07P_1 (io), 71 IO_L07N_1 (io)
part C pins: 24 IO_L01P_2/CSO_B (io), 25 IO_L01N_2/INIT_B (io), 26 IO_L02P_2/DOUT/BUSY (io), 27 IO_L02N_2/MOSI/CSI_B (io), 32 IO_L03P_2/D7/GCLK12 (io), 33 IO_L03N_2/D6/GCLK13 (io), 34 IO/D5 (io), 35 IO_L04P_2/D4/GCLK14 (io), 36 IO_L04N_2/D3/GCLK15 (io), 40 IO_L06P_2/D2/GCLK2 (io), 41 IO_L06N_2/D1/GCLK3 (io), 42 IO/M1 (io), 43 IO_L07P_2/M0 (io), 44 IO_L07N_2/DIN/D0 (io), 47 IO_L08P_2/VS2 (io), 48 IO_L08N_2/VS1 (io), 49 IO_L09P_2/VS0 (io), 50 IO_L09N_2/CCLK (io)
part D pins: 2 IO_L01P_3 (io), 3 IO_L01N_3 (io), 4 IO_L02P_3 (io), 5 IO_L02N_3/VREF_3 (io), 9 IO_L03P_3/LHCLK0 (io), 10 IO_L03N_3/LHCLK1 (io), 11 IO_L04P_3/LHCLK2 (io), 12 IO_L04N_3/LHCLK3 (io), 15 IO_L05P_3/LHCLK4 (io), 16 IO_L05N_3/LHCLK5 (io), 17 IO_L06P_3/LHCLK6 (io), 18 IO_L06N_3/LHCLK7 (io), 22 IO_L07P_3 (io), 23 IO_L07N_3 (io)
part E pins: 13 IP (in), 30 IP/VREF_2 (in), 38 IP_L05P_2/RDWR_B/GCLK0 (in), 39 IP_L05N_2/M2/GCLK1 (in), 69 IP/VREF_1 (in), 88 IP_L04P_0/GCLK8 (in), 89 IP_L04N_0/GCLK9 (in)
part F pins: 1 PROG_B (in), 51 DONE (io), 75 TMS (in), 76 TDO (out), 77 TCK (in), 100 TDI (in)
part G pins: 6 VCCINT (power), 8 VCCO_3 (power), 20 VCCO_3 (power), 21 VCCAUX (power), 28 VCCINT (power), 31 VCCO_2 (power), 45 VCCO_2 (power), 46 VCCAUX (power), 55 VCCO_1 (power), 56 VCCINT (power), 73 VCCO_1 (power), 74 VCCAUX (power), 80 VCCINT (power), 82 VCCO_0 (power), 96 VCCAUX (power), 97 VCCO_0 (power)
part H pins: 7 GND (power), 14 GND (power), 19 GND (power), 29 GND (power), 37 GND (power), 52 GND (power), 59 GND (power), 64 GND (power), 72 GND (power), 81 GND (power), 87 GND (power), 93 GND (power)
part A text: BANK 0
part B text: BANK 1
part C text: BANK 2
part D text: BANK 3

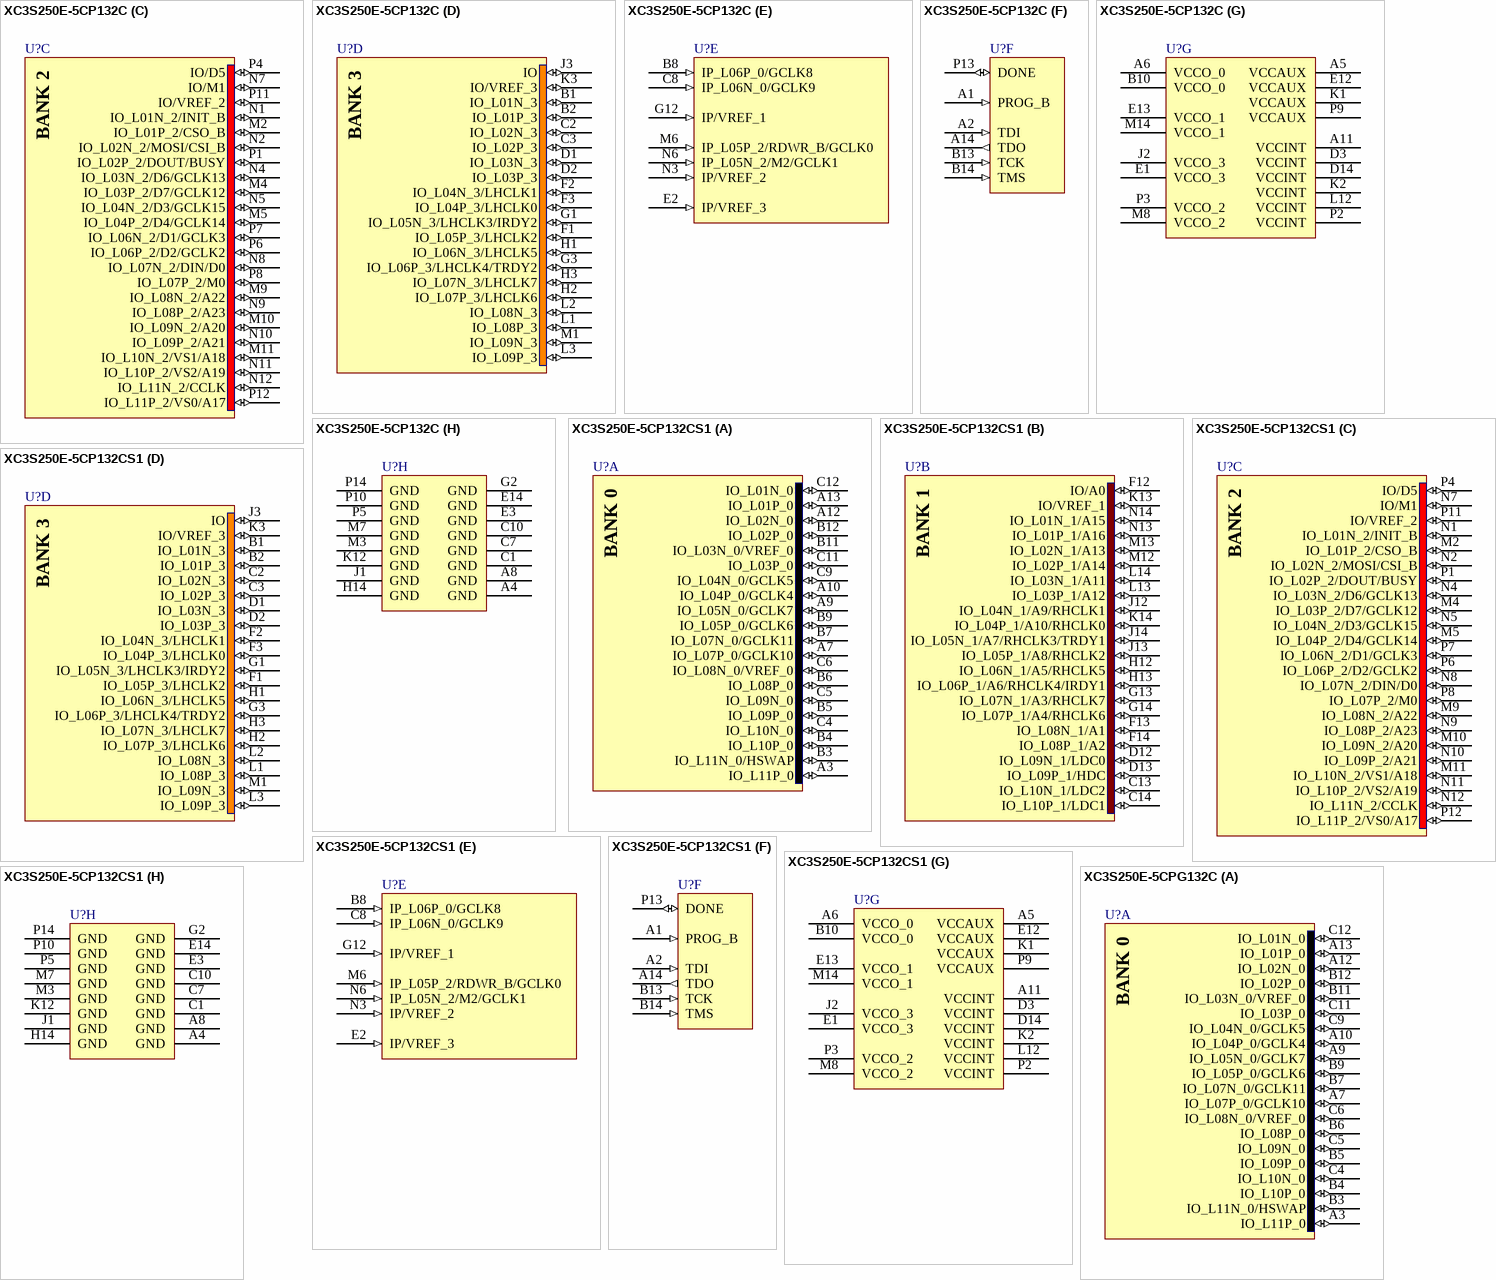
[diagram p41: symbols XC3S250E-5CP132C to XC3S250E-5CPG132C]

## XC3S250E-5CP132C
designator U?
Spartan-3E 1.2V FPGA, 92 User I/Os, 132-Ball Chip-Scale BGA, High Performance, Commercial Grade; Published: 6-Jun-2005; LatestRevisionDate: 30-Oct-2009; LatestRevisionNote: Updated to datasheet version 3.8 Aug-2009.; DatasheetVersion: ver3.8, Aug-2009; PackageVersion: ver1.3, Jun-2008; PackageReference: CP132; Publisher: Altium Limited; PackageDescription: 132-Ball Chip Scale Ball Grid Array 0.5 mm Pitch (CP132); ComponentLink1Description: Spartan-3E Datasheet; ComponentLink1URL: http://www.xilinx.com/support/documentation/data_sheets/ds312.pdf; ComponentLink2Description: CP132 Package Drawing; ComponentLink2URL: http://www.xilinx.com/support/documentation/package_specs/cp132.pdf; ComponentLink3Description: Spartan-3E Documents; ComponentLink3URL: http://www.xilinx.com/support/documentation/spartan-3e.htm; ComponentLink4Description: Xilinx.com Home; ComponentLink4URL: http://www.xilinx.com
footprint CP132 (BGA, 132-Leads, Body 8x8mm, Pitch 0.5mm)
signal-integrity model XC3S250E_CP132 (Spartan-3E)
part A pins: A3 IO_L11P_0 (io), A7 IO_L07P_0/GCLK10 (io), A9 IO_L05N_0/GCLK7 (io), A10 IO_L04P_0/GCLK4 (io), A12 IO_L02N_0 (io), A13 IO_L01P_0 (io), B3 IO_L11N_0/HSWAP (io), B4 IO_L10P_0 (io), B5 IO_L09P_0 (io), B6 IO_L08P_0 (io), B7 IO_L07N_0/GCLK11 (io), B9 IO_L05P_0/GCLK6 (io), B11 IO_L03N_0/VREF_0 (io), B12 IO_L02P_0 (io), C4 IO_L10N_0 (io), C5 IO_L09N_0 (io), C6 IO_L08N_0/VREF_0 (io), C9 IO_L04N_0/GCLK5 (io), C11 IO_L03P_0 (io), C12 IO_L01N_0 (io)
part B pins: C13 IO_L10N_1/LDC2 (io), C14 IO_L10P_1/LDC1 (io), D12 IO_L09N_1/LDC0 (io), D13 IO_L09P_1/HDC (io), F12 IO/A0 (io), F13 IO_L08N_1/A1 (io), F14 IO_L08P_1/A2 (io), G13 IO_L07N_1/A3/RHCLK7 (io), G14 IO_L07P_1/A4/RHCLK6 (io), H12 IO_L06N_1/A5/RHCLK5 (io), H13 IO_L06P_1/A6/RHCLK4/IRDY1 (io), J12 IO_L04N_1/A9/RHCLK1 (io), J13 IO_L05P_1/A8/RHCLK2 (io), J14 IO_L05N_1/A7/RHCLK3/TRDY1 (io), K13 IO/VREF_1 (io), K14 IO_L04P_1/A10/RHCLK0 (io), L13 IO_L03P_1/A12 (io), L14 IO_L03N_1/A11 (io), M12 IO_L02P_1/A14 (io), M13 IO_L02N_1/A13 (io), N13 IO_L01P_1/A16 (io), N14 IO_L01N_1/A15 (io)
part C pins: M2 IO_L01P_2/CSO_B (io), M4 IO_L03P_2/D7/GCLK12 (io), M5 IO_L04P_2/D4/GCLK14 (io), M9 IO_L08N_2/A22 (io), M10 IO_L09N_2/A20 (io), M11 IO_L10N_2/VS1/A18 (io), N1 IO_L01N_2/INIT_B (io), N2 IO_L02N_2/MOSI/CSI_B (io), N4 IO_L03N_2/D6/GCLK13 (io), N5 IO_L04N_2/D3/GCLK15 (io), N7 IO/M1 (io), N8 IO_L07N_2/DIN/D0 (io), N9 IO_L08P_2/A23 (io), N10 IO_L09P_2/A21 (io), N11 IO_L10P_2/VS2/A19 (io), N12 IO_L11N_2/CCLK (io), P1 IO_L02P_2/DOUT/BUSY (io), P4 IO/D5 (io), P6 IO_L06P_2/D2/GCLK2 (io), P7 IO_L06N_2/D1/GCLK3 (io), P8 IO_L07P_2/M0 (io), P11 IO/VREF_2 (io), P12 IO_L11P_2/VS0/A17 (io)
part D pins: B1 IO_L01N_3 (io), B2 IO_L01P_3 (io), C2 IO_L02N_3 (io), C3 IO_L02P_3 (io), D1 IO_L03N_3 (io), D2 IO_L03P_3 (io), F1 IO_L05P_3/LHCLK2 (io), F2 IO_L04N_3/LHCLK1 (io), F3 IO_L04P_3/LHCLK0 (io), G1 IO_L05N_3/LHCLK3/IRDY2 (io), G3 IO_L06P_3/LHCLK4/TRDY2 (io), H1 IO_L06N_3/LHCLK5 (io), H2 IO_L07P_3/LHCLK6 (io), H3 IO_L07N_3/LHCLK7 (io), J3 IO (io), K3 IO/VREF_3 (io), L1 IO_L08P_3 (io), L2 IO_L08N_3 (io), L3 IO_L09P_3 (io), M1 IO_L09N_3 (io)
part E pins: B8 IP_L06P_0/GCLK8 (in), C8 IP_L06N_0/GCLK9 (in), E2 IP/VREF_3 (in), G12 IP/VREF_1 (in), M6 IP_L05P_2/RDWR_B/GCLK0 (in), N3 IP/VREF_2 (in), N6 IP_L05N_2/M2/GCLK1 (in)
part F pins: A1 PROG_B (in), A2 TDI (in), A14 TDO (out), B13 TCK (in), B14 TMS (in), P13 DONE (io)
part G pins: A5 VCCAUX (power), A6 VCCO_0 (power), A11 VCCINT (power), B10 VCCO_0 (power), D3 VCCINT (power), D14 VCCINT (power), E1 VCCO_3 (power), E12 VCCAUX (power), E13 VCCO_1 (power), J2 VCCO_3 (power), K1 VCCAUX (power), K2 VCCINT (power), L12 VCCINT (power), M8 VCCO_2 (power), M14 VCCO_1 (power), P2 VCCINT (power), P3 VCCO_2 (power), P9 VCCAUX (power)
part H pins: A4 GND (power), A8 GND (power), C1 GND (power), C7 GND (power), C10 GND (power), E3 GND (power), E14 GND (power), G2 GND (power), H14 GND (power), J1 GND (power), K12 GND (power), M3 GND (power), M7 GND (power), P5 GND (power), P10 GND (power), P14 GND (power)
part A text: BANK 0
part B text: BANK 1
part C text: BANK 2
part D text: BANK 3